# Altium schematic symbol library MCU_NXP_Kinetis.SchLib: 155 symbols (part 2 of 4)
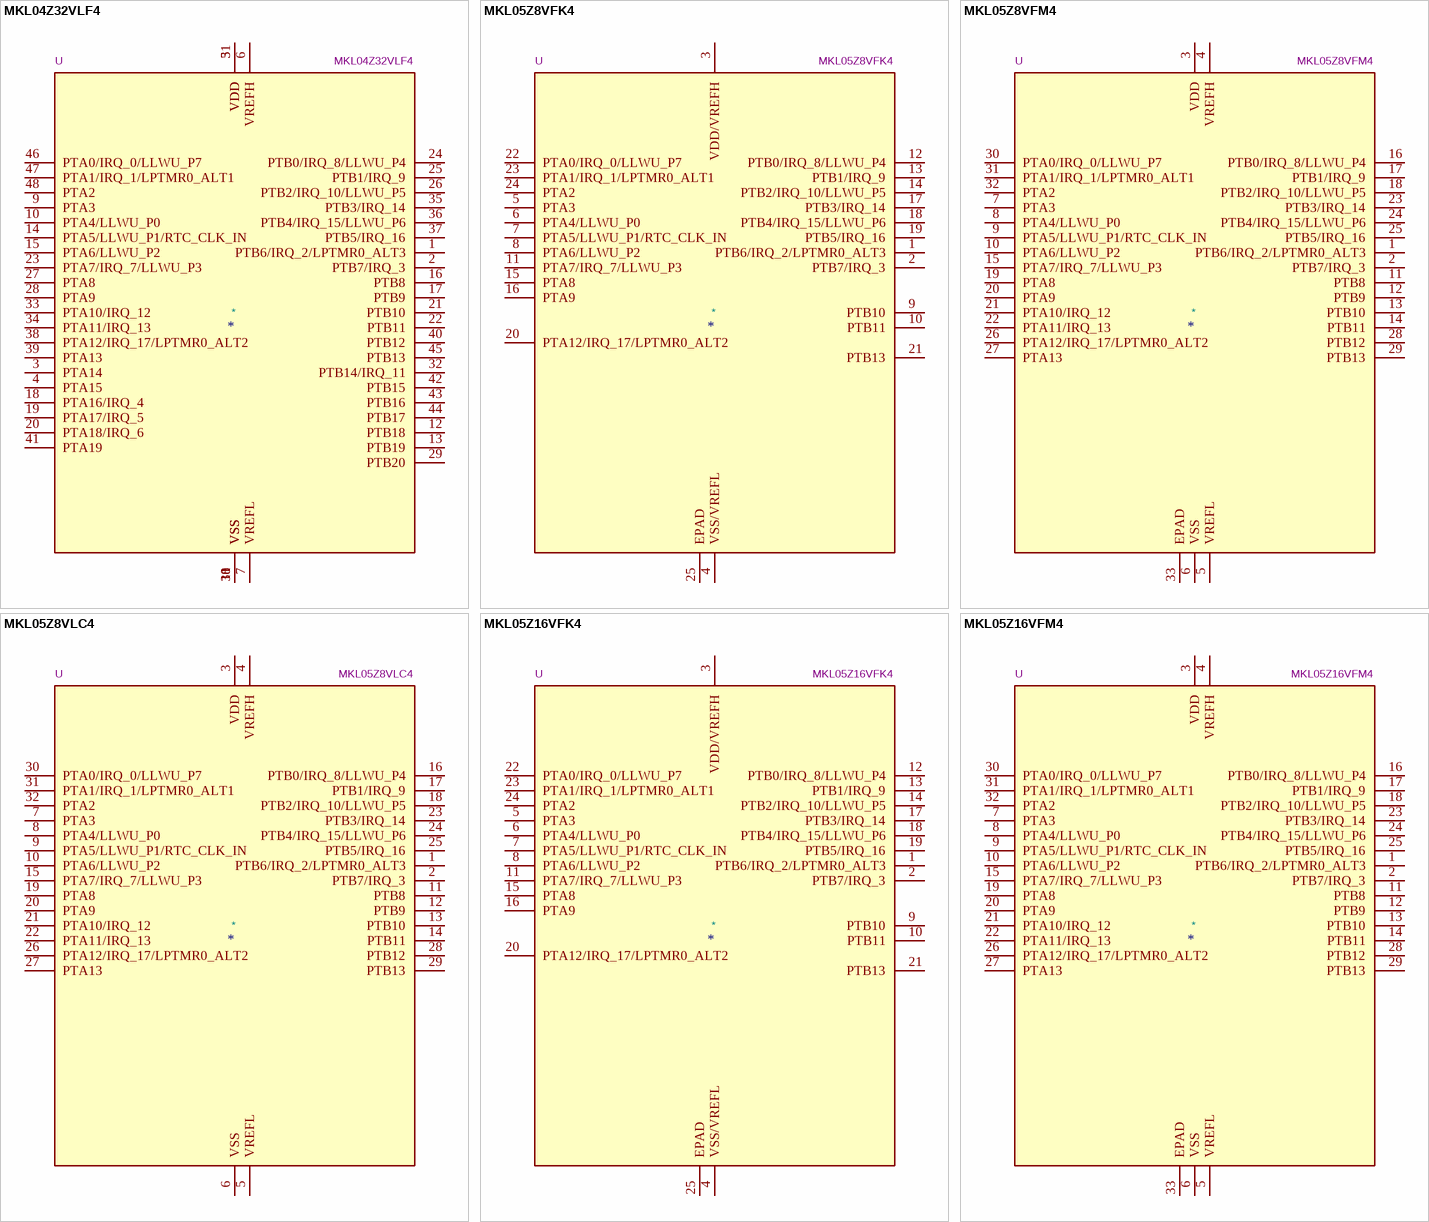
[diagram p31: symbols MKL04Z32VLF4 to MKL05Z16VFM4]

## MKL05Z16VFK4
designator *  value MKL05Z16VFK4  Reference: U
Kinetis KL05 series, 48-MHz/32-bit ARM Cortex-M0+, 16 kB flash, 2 kB SRAM, QFN-24; ki_keywords: Kinetis KL05 ARM Cortex M0+; ki_fp_filters: QFN*4x4mm*P0.5mm*; Footprint: Package_DFN_QFN:QFN-24-1EP_4x4mm_P0.5mm_EP2.6x2.6mm; Datasheet: http://www.nxp.com/docs/en/data-sheet/KL05P48M48SF1.pdf; Description_: Kinetis KL05 series, 48-MHz/32-bit ARM Cortex-M0+, 16 kB flash, 2 kB SRAM, QFN-24
pins: 1 PTB6/IRQ_2/LPTMR0_ALT3, 2 PTB7/IRQ_3, 3 VDD/VREFH, 4 VSS/VREFL, 5 PTA3, 6 PTA4/LLWU_P0, 7 PTA5/LLWU_P1/RTC_CLK_IN, 8 PTA6/LLWU_P2, 9 PTB10, 10 PTB11, 11 PTA7/IRQ_7/LLWU_P3, 12 PTB0/IRQ_8/LLWU_P4, 13 PTB1/IRQ_9, 14 PTB2/IRQ_10/LLWU_P5, 15 PTA8, 16 PTA9, 17 PTB3/IRQ_14, 18 PTB4/IRQ_15/LLWU_P6, 19 PTB5/IRQ_16, 20 PTA12/IRQ_17/LPTMR0_ALT2, 21 PTB13, 22 PTA0/IRQ_0/LLWU_P7, 23 PTA1/IRQ_1/LPTMR0_ALT1, 24 PTA2, 25 EPAD

## MKL05Z16VFM4
designator *  value MKL05Z16VFM4  Reference: U
Kinetis KL05 series, 48-MHz/32-bit ARM Cortex-M0+, 16 kB flash, 2 kB SRAM, QFN-32; ki_keywords: Kinetis KL05 ARM Cortex M0+; ki_fp_filters: QFN*5x5mm*P0.5mm*; Footprint: Package_DFN_QFN:QFN-32-1EP_5x5mm_P0.5mm_EP3.45x3.45mm; Datasheet: http://www.nxp.com/docs/en/data-sheet/KL05P48M48SF1.pdf; Description_: Kinetis KL05 series, 48-MHz/32-bit ARM Cortex-M0+, 16 kB flash, 2 kB SRAM, QFN-32
pins: 1 PTB6/IRQ_2/LPTMR0_ALT3, 2 PTB7/IRQ_3, 3 VDD, 4 VREFH, 5 VREFL, 6 VSS, 7 PTA3, 8 PTA4/LLWU_P0, 9 PTA5/LLWU_P1/RTC_CLK_IN, 10 PTA6/LLWU_P2, 11 PTB8, 12 PTB9, 13 PTB10, 14 PTB11, 15 PTA7/IRQ_7/LLWU_P3, 16 PTB0/IRQ_8/LLWU_P4, 17 PTB1/IRQ_9, 18 PTB2/IRQ_10/LLWU_P5, 19 PTA8, 20 PTA9, 21 PTA10/IRQ_12, 22 PTA11/IRQ_13, 23 PTB3/IRQ_14, 24 PTB4/IRQ_15/LLWU_P6, 25 PTB5/IRQ_16, 26 PTA12/IRQ_17/LPTMR0_ALT2, 27 PTA13, 28 PTB12, 29 PTB13, 30 PTA0/IRQ_0/LLWU_P7, 31 PTA1/IRQ_1/LPTMR0_ALT1, 32 PTA2, 33 EPAD

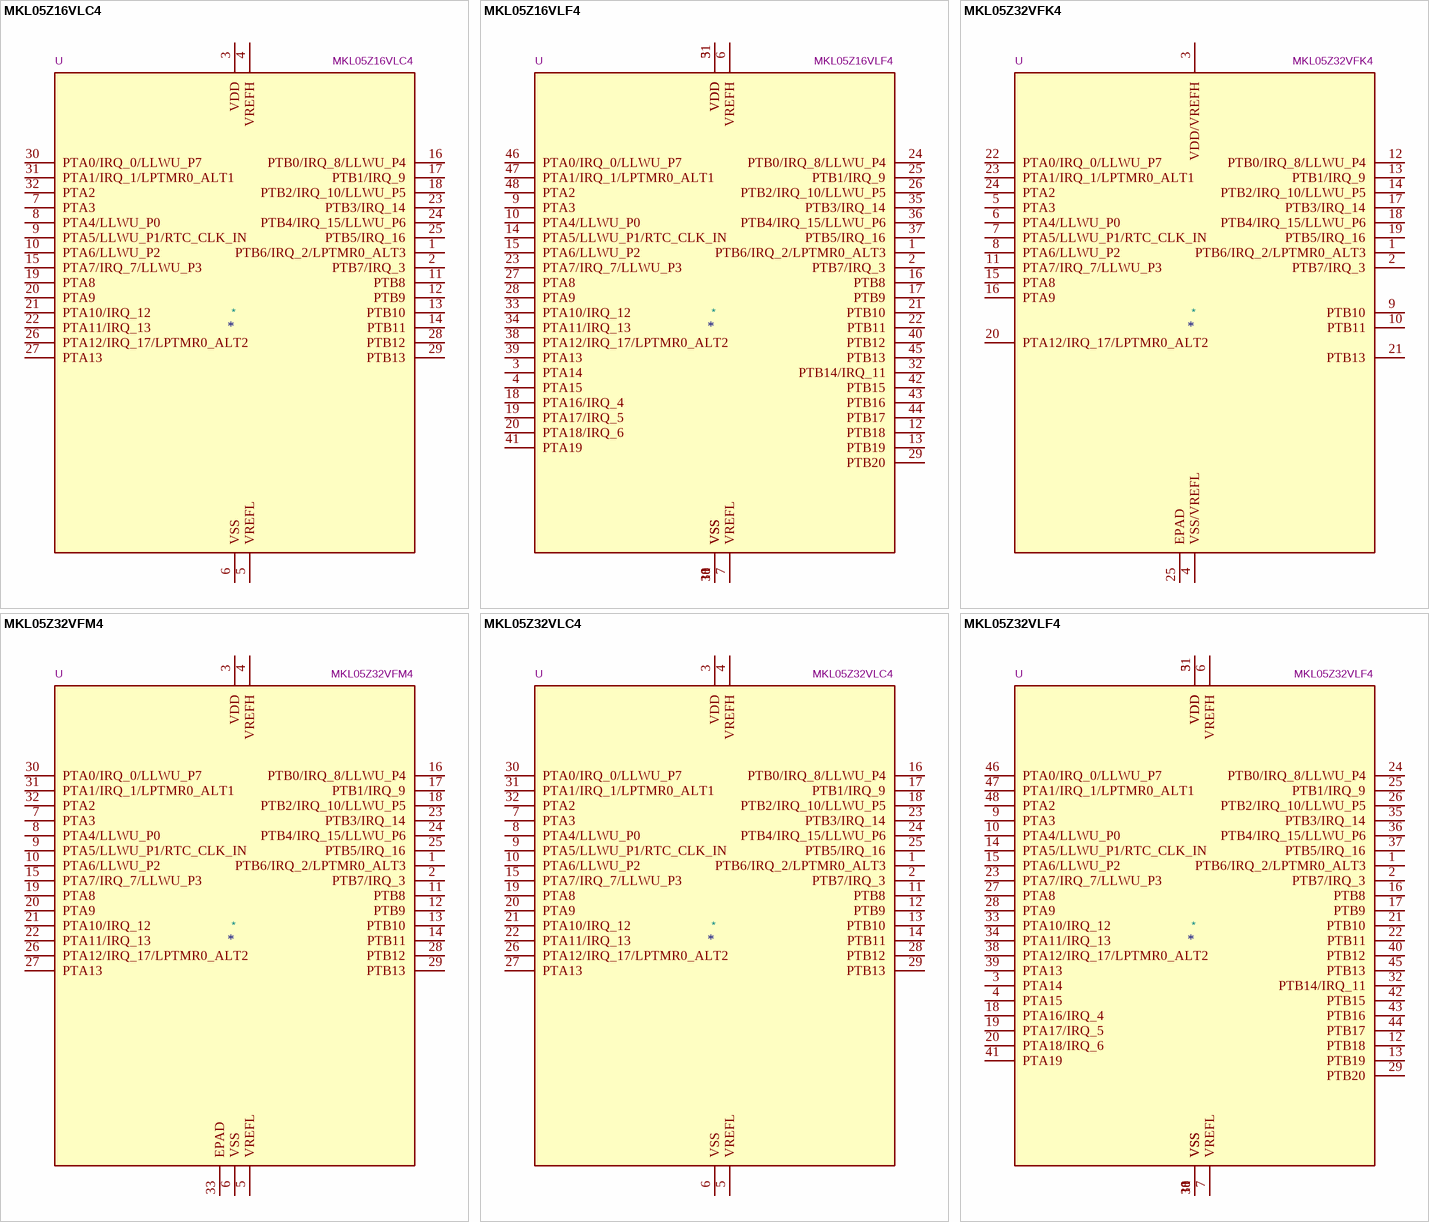
[diagram p8: symbols MKL05Z16VLC4 to MKL05Z32VLF4]

## MKL05Z16VLC4
designator *  value MKL05Z16VLC4  Reference: U
Kinetis KL05 series, 48-MHz/32-bit ARM Cortex-M0+, 16 kB flash, 2 kB SRAM, LQFP-32; ki_keywords: Kinetis KL05 ARM Cortex M0+; ki_fp_filters: LQFP*7x7mm*P0.8mm*; Footprint: Package_QFP:LQFP-32_7x7mm_P0.8mm; Datasheet: http://www.nxp.com/docs/en/data-sheet/KL05P48M48SF1.pdf; Description_: Kinetis KL05 series, 48-MHz/32-bit ARM Cortex-M0+, 16 kB flash, 2 kB SRAM, LQFP-32
pins: 1 PTB6/IRQ_2/LPTMR0_ALT3, 2 PTB7/IRQ_3, 3 VDD, 4 VREFH, 5 VREFL, 6 VSS, 7 PTA3, 8 PTA4/LLWU_P0, 9 PTA5/LLWU_P1/RTC_CLK_IN, 10 PTA6/LLWU_P2, 11 PTB8, 12 PTB9, 13 PTB10, 14 PTB11, 15 PTA7/IRQ_7/LLWU_P3, 16 PTB0/IRQ_8/LLWU_P4, 17 PTB1/IRQ_9, 18 PTB2/IRQ_10/LLWU_P5, 19 PTA8, 20 PTA9, 21 PTA10/IRQ_12, 22 PTA11/IRQ_13, 23 PTB3/IRQ_14, 24 PTB4/IRQ_15/LLWU_P6, 25 PTB5/IRQ_16, 26 PTA12/IRQ_17/LPTMR0_ALT2, 27 PTA13, 28 PTB12, 29 PTB13, 30 PTA0/IRQ_0/LLWU_P7, 31 PTA1/IRQ_1/LPTMR0_ALT1, 32 PTA2

## MKL05Z16VLF4
designator *  value MKL05Z16VLF4  Reference: U
Kinetis KL05 series, 48-MHz/32-bit ARM Cortex-M0+, 16 kB flash, 2 kB SRAM, LQFP-48; ki_keywords: Kinetis KL05 ARM Cortex M0+; ki_fp_filters: LQFP*7x7mm*P0.5mm*; Footprint: Package_QFP:LQFP-48_7x7mm_P0.5mm; Datasheet: http://www.nxp.com/docs/en/data-sheet/KL05P48M48SF1.pdf; Description_: Kinetis KL05 series, 48-MHz/32-bit ARM Cortex-M0+, 16 kB flash, 2 kB SRAM, LQFP-48
pins: 1 PTB6/IRQ_2/LPTMR0_ALT3, 2 PTB7/IRQ_3, 3 PTA14, 4 PTA15, 5 VDD, 6 VREFH, 7 VREFL, 8 VSS, 9 PTA3, 10 PTA4/LLWU_P0, 11 VSS, 12 PTB18, 13 PTB19, 14 PTA5/LLWU_P1/RTC_CLK_IN, 15 PTA6/LLWU_P2, 16 PTB8, 17 PTB9, 18 PTA16/IRQ_4, 19 PTA17/IRQ_5, 20 PTA18/IRQ_6, 21 PTB10, 22 PTB11, 23 PTA7/IRQ_7/LLWU_P3, 24 PTB0/IRQ_8/LLWU_P4, 25 PTB1/IRQ_9, 26 PTB2/IRQ_10/LLWU_P5, 27 PTA8, 28 PTA9, 29 PTB20, 30 VSS, 31 VDD, 32 PTB14/IRQ_11, 33 PTA10/IRQ_12, 34 PTA11/IRQ_13, 35 PTB3/IRQ_14, 36 PTB4/IRQ_15/LLWU_P6, 37 PTB5/IRQ_16, 38 PTA12/IRQ_17/LPTMR0_ALT2, 39 PTA13, 40 PTB12, 41 PTA19, 42 PTB15, 43 PTB16, 44 PTB17, 45 PTB13, 46 PTA0/IRQ_0/LLWU_P7, 47 PTA1/IRQ_1/LPTMR0_ALT1, 48 PTA2

## MKL05Z32VFK4
designator *  value MKL05Z32VFK4  Reference: U
Kinetis KL05 series, 48-MHz/32-bit ARM Cortex-M0+, 32 kB flash, 4 kB SRAM, QFN-24; ki_keywords: Kinetis KL05 ARM Cortex M0+; ki_fp_filters: QFN*4x4mm*P0.5mm*; Footprint: Package_DFN_QFN:QFN-24-1EP_4x4mm_P0.5mm_EP2.6x2.6mm; Datasheet: http://www.nxp.com/docs/en/data-sheet/KL05P48M48SF1.pdf; Description_: Kinetis KL05 series, 48-MHz/32-bit ARM Cortex-M0+, 32 kB flash, 4 kB SRAM, QFN-24
pins: 1 PTB6/IRQ_2/LPTMR0_ALT3, 2 PTB7/IRQ_3, 3 VDD/VREFH, 4 VSS/VREFL, 5 PTA3, 6 PTA4/LLWU_P0, 7 PTA5/LLWU_P1/RTC_CLK_IN, 8 PTA6/LLWU_P2, 9 PTB10, 10 PTB11, 11 PTA7/IRQ_7/LLWU_P3, 12 PTB0/IRQ_8/LLWU_P4, 13 PTB1/IRQ_9, 14 PTB2/IRQ_10/LLWU_P5, 15 PTA8, 16 PTA9, 17 PTB3/IRQ_14, 18 PTB4/IRQ_15/LLWU_P6, 19 PTB5/IRQ_16, 20 PTA12/IRQ_17/LPTMR0_ALT2, 21 PTB13, 22 PTA0/IRQ_0/LLWU_P7, 23 PTA1/IRQ_1/LPTMR0_ALT1, 24 PTA2, 25 EPAD

## MKL05Z32VFM4
designator *  value MKL05Z32VFM4  Reference: U
Kinetis KL05 series, 48-MHz/32-bit ARM Cortex-M0+, 32 kB flash, 4 kB SRAM, QFN-32; ki_keywords: Kinetis KL05 ARM Cortex M0+; ki_fp_filters: QFN*5x5mm*P0.5mm*; Footprint: Package_DFN_QFN:QFN-32-1EP_5x5mm_P0.5mm_EP3.45x3.45mm; Datasheet: http://www.nxp.com/docs/en/data-sheet/KL05P48M48SF1.pdf; Description_: Kinetis KL05 series, 48-MHz/32-bit ARM Cortex-M0+, 32 kB flash, 4 kB SRAM, QFN-32
pins: 1 PTB6/IRQ_2/LPTMR0_ALT3, 2 PTB7/IRQ_3, 3 VDD, 4 VREFH, 5 VREFL, 6 VSS, 7 PTA3, 8 PTA4/LLWU_P0, 9 PTA5/LLWU_P1/RTC_CLK_IN, 10 PTA6/LLWU_P2, 11 PTB8, 12 PTB9, 13 PTB10, 14 PTB11, 15 PTA7/IRQ_7/LLWU_P3, 16 PTB0/IRQ_8/LLWU_P4, 17 PTB1/IRQ_9, 18 PTB2/IRQ_10/LLWU_P5, 19 PTA8, 20 PTA9, 21 PTA10/IRQ_12, 22 PTA11/IRQ_13, 23 PTB3/IRQ_14, 24 PTB4/IRQ_15/LLWU_P6, 25 PTB5/IRQ_16, 26 PTA12/IRQ_17/LPTMR0_ALT2, 27 PTA13, 28 PTB12, 29 PTB13, 30 PTA0/IRQ_0/LLWU_P7, 31 PTA1/IRQ_1/LPTMR0_ALT1, 32 PTA2, 33 EPAD

## MKL05Z32VLC4
designator *  value MKL05Z32VLC4  Reference: U
Kinetis KL05 series, 48-MHz/32-bit ARM Cortex-M0+, 32 kB flash, 4 kB SRAM, LQFP-32; ki_keywords: Kinetis KL05 ARM Cortex M0+; ki_fp_filters: LQFP*7x7mm*P0.8mm*; Footprint: Package_QFP:LQFP-32_7x7mm_P0.8mm; Datasheet: http://www.nxp.com/docs/en/data-sheet/KL05P48M48SF1.pdf; Description_: Kinetis KL05 series, 48-MHz/32-bit ARM Cortex-M0+, 32 kB flash, 4 kB SRAM, LQFP-32
pins: 1 PTB6/IRQ_2/LPTMR0_ALT3, 2 PTB7/IRQ_3, 3 VDD, 4 VREFH, 5 VREFL, 6 VSS, 7 PTA3, 8 PTA4/LLWU_P0, 9 PTA5/LLWU_P1/RTC_CLK_IN, 10 PTA6/LLWU_P2, 11 PTB8, 12 PTB9, 13 PTB10, 14 PTB11, 15 PTA7/IRQ_7/LLWU_P3, 16 PTB0/IRQ_8/LLWU_P4, 17 PTB1/IRQ_9, 18 PTB2/IRQ_10/LLWU_P5, 19 PTA8, 20 PTA9, 21 PTA10/IRQ_12, 22 PTA11/IRQ_13, 23 PTB3/IRQ_14, 24 PTB4/IRQ_15/LLWU_P6, 25 PTB5/IRQ_16, 26 PTA12/IRQ_17/LPTMR0_ALT2, 27 PTA13, 28 PTB12, 29 PTB13, 30 PTA0/IRQ_0/LLWU_P7, 31 PTA1/IRQ_1/LPTMR0_ALT1, 32 PTA2

## MKL05Z32VLF4
designator *  value MKL05Z32VLF4  Reference: U
Kinetis KL05 series, 48-MHz/32-bit ARM Cortex-M0+, 32 kB flash, 4 kB SRAM, LQFP-48; ki_keywords: Kinetis KL05 ARM Cortex M0+; ki_fp_filters: LQFP*7x7mm*P0.5mm*; Footprint: Package_QFP:LQFP-48_7x7mm_P0.5mm; Datasheet: http://www.nxp.com/docs/en/data-sheet/KL05P48M48SF1.pdf; Description_: Kinetis KL05 series, 48-MHz/32-bit ARM Cortex-M0+, 32 kB flash, 4 kB SRAM, LQFP-48
pins: 1 PTB6/IRQ_2/LPTMR0_ALT3, 2 PTB7/IRQ_3, 3 PTA14, 4 PTA15, 5 VDD, 6 VREFH, 7 VREFL, 8 VSS, 9 PTA3, 10 PTA4/LLWU_P0, 11 VSS, 12 PTB18, 13 PTB19, 14 PTA5/LLWU_P1/RTC_CLK_IN, 15 PTA6/LLWU_P2, 16 PTB8, 17 PTB9, 18 PTA16/IRQ_4, 19 PTA17/IRQ_5, 20 PTA18/IRQ_6, 21 PTB10, 22 PTB11, 23 PTA7/IRQ_7/LLWU_P3, 24 PTB0/IRQ_8/LLWU_P4, 25 PTB1/IRQ_9, 26 PTB2/IRQ_10/LLWU_P5, 27 PTA8, 28 PTA9, 29 PTB20, 30 VSS, 31 VDD, 32 PTB14/IRQ_11, 33 PTA10/IRQ_12, 34 PTA11/IRQ_13, 35 PTB3/IRQ_14, 36 PTB4/IRQ_15/LLWU_P6, 37 PTB5/IRQ_16, 38 PTA12/IRQ_17/LPTMR0_ALT2, 39 PTA13, 40 PTB12, 41 PTA19, 42 PTB15, 43 PTB16, 44 PTB17, 45 PTB13, 46 PTA0/IRQ_0/LLWU_P7, 47 PTA1/IRQ_1/LPTMR0_ALT1, 48 PTA2

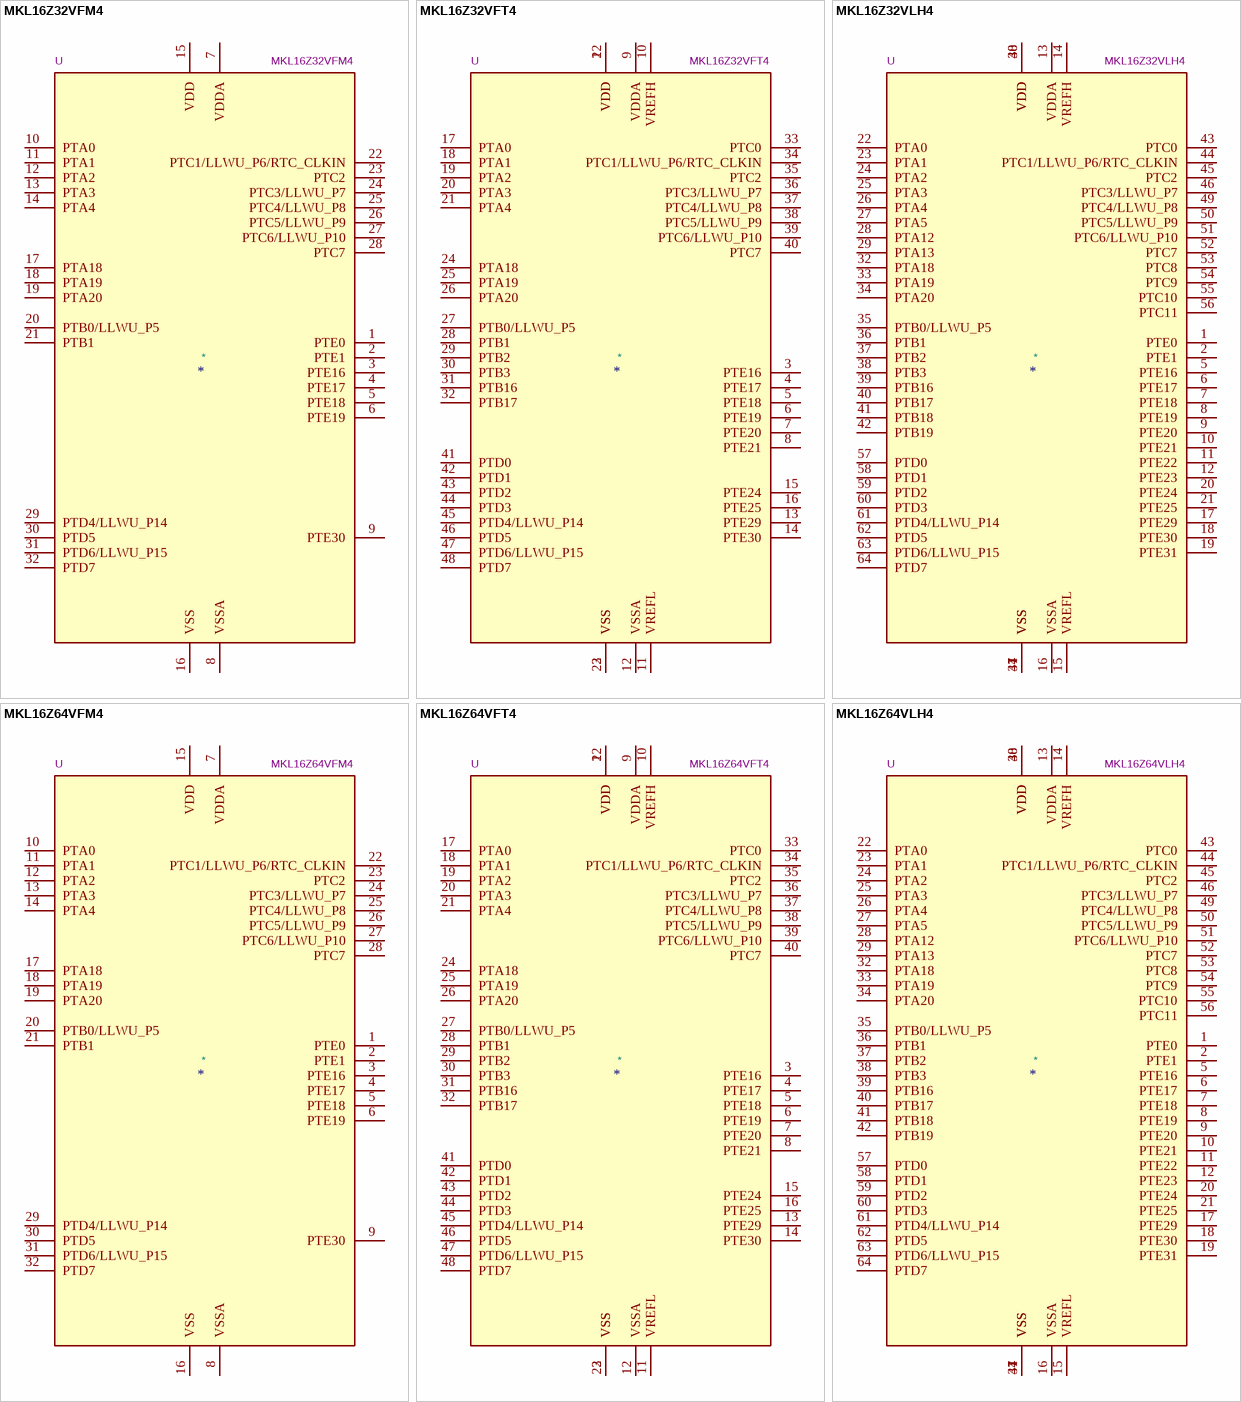
[diagram p9: symbols MKL16Z32VFM4 to MKL16Z64VLH4]

## MKL16Z32VFM4
designator *  value MKL16Z32VFM4  Reference: U
Kinetis KL16 series, 48-MHz/32-bit ARM Cortex-M0+, 32 kB flash, 4 kB SRAM, I²S, TSI, QFN-32; ki_keywords: Kinetis KL16 ARM Cortex M0+; ki_fp_filters: QFN*5x5mm*P0.5mm*; Footprint: Package_DFN_QFN:QFN-32-1EP_5x5mm_P0.5mm_EP3.45x3.45mm; Datasheet: http://www.nxp.com/docs/en/data-sheet/KL16P64M48SF5.pdf; Description_: Kinetis KL16 series, 48-MHz/32-bit ARM Cortex-M0+, 32 kB flash, 4 kB SRAM, I²S, TSI, QFN-32
pins: 1 PTE0, 2 PTE1, 3 PTE16, 4 PTE17, 5 PTE18, 6 PTE19, 7 VDDA, 8 VSSA, 9 PTE30, 10 PTA0, 11 PTA1, 12 PTA2, 13 PTA3, 14 PTA4, 15 VDD, 16 VSS, 17 PTA18, 18 PTA19, 19 PTA20, 20 PTB0/LLWU_P5, 21 PTB1, 22 PTC1/LLWU_P6/RTC_CLKIN, 23 PTC2, 24 PTC3/LLWU_P7, 25 PTC4/LLWU_P8, 26 PTC5/LLWU_P9, 27 PTC6/LLWU_P10, 28 PTC7, 29 PTD4/LLWU_P14, 30 PTD5, 31 PTD6/LLWU_P15, 32 PTD7

## MKL16Z32VFT4
designator *  value MKL16Z32VFT4  Reference: U
Kinetis KL16 series, 48-MHz/32-bit ARM Cortex-M0+, 32 kB flash, 4 kB SRAM, I²S, TSI, QFN-48; ki_keywords: Kinetis KL16 ARM Cortex M0+; ki_fp_filters: QFN*7x7mm*P0.5mm*; Footprint: Package_DFN_QFN:QFN-48-1EP_7x7mm_P0.5mm_EP5.15x5.15mm; Datasheet: http://www.nxp.com/docs/en/data-sheet/KL16P64M48SF5.pdf; Description_: Kinetis KL16 series, 48-MHz/32-bit ARM Cortex-M0+, 32 kB flash, 4 kB SRAM, I²S, TSI, QFN-48
pins: 1 VDD, 2 VSS, 3 PTE16, 4 PTE17, 5 PTE18, 6 PTE19, 7 PTE20, 8 PTE21, 9 VDDA, 10 VREFH, 11 VREFL, 12 VSSA, 13 PTE29, 14 PTE30, 15 PTE24, 16 PTE25, 17 PTA0, 18 PTA1, 19 PTA2, 20 PTA3, 21 PTA4, 22 VDD, 23 VSS, 24 PTA18, 25 PTA19, 26 PTA20, 27 PTB0/LLWU_P5, 28 PTB1, 29 PTB2, 30 PTB3, 31 PTB16, 32 PTB17, 33 PTC0, 34 PTC1/LLWU_P6/RTC_CLKIN, 35 PTC2, 36 PTC3/LLWU_P7, 37 PTC4/LLWU_P8, 38 PTC5/LLWU_P9, 39 PTC6/LLWU_P10, 40 PTC7, 41 PTD0, 42 PTD1, 43 PTD2, 44 PTD3, 45 PTD4/LLWU_P14, 46 PTD5, 47 PTD6/LLWU_P15, 48 PTD7

## MKL16Z32VLH4
designator *  value MKL16Z32VLH4  Reference: U
Kinetis KL16 series, 48-MHz/32-bit ARM Cortex-M0+, 32 kB flash, 4 kB SRAM, I²S, TSI, LQFP-64; ki_keywords: Kinetis KL16 ARM Cortex M0+; ki_fp_filters: LQFP*10x10mm*P0.5mm*; Footprint: Package_QFP:LQFP-64_10x10mm_P0.5mm; Datasheet: http://www.nxp.com/docs/en/data-sheet/KL16P64M48SF5.pdf; Description_: Kinetis KL16 series, 48-MHz/32-bit ARM Cortex-M0+, 32 kB flash, 4 kB SRAM, I²S, TSI, LQFP-64
pins: 1 PTE0, 2 PTE1, 3 VDD, 4 VSS, 5 PTE16, 6 PTE17, 7 PTE18, 8 PTE19, 9 PTE20, 10 PTE21, 11 PTE22, 12 PTE23, 13 VDDA, 14 VREFH, 15 VREFL, 16 VSSA, 17 PTE29, 18 PTE30, 19 PTE31, 20 PTE24, 21 PTE25, 22 PTA0, 23 PTA1, 24 PTA2, 25 PTA3, 26 PTA4, 27 PTA5, 28 PTA12, 29 PTA13, 30 VDD, 31 VSS, 32 PTA18, 33 PTA19, 34 PTA20, 35 PTB0/LLWU_P5, 36 PTB1, 37 PTB2, 38 PTB3, 39 PTB16, 40 PTB17, 41 PTB18, 42 PTB19, 43 PTC0, 44 PTC1/LLWU_P6/RTC_CLKIN, 45 PTC2, 46 PTC3/LLWU_P7, 47 VSS, 48 VDD, 49 PTC4/LLWU_P8, 50 PTC5/LLWU_P9, 51 PTC6/LLWU_P10, 52 PTC7, 53 PTC8, 54 PTC9, 55 PTC10, 56 PTC11, 57 PTD0, 58 PTD1, 59 PTD2, 60 PTD3, 61 PTD4/LLWU_P14, 62 PTD5, 63 PTD6/LLWU_P15, 64 PTD7

## MKL16Z64VFM4
designator *  value MKL16Z64VFM4  Reference: U
Kinetis KL16 series, 48-MHz/32-bit ARM Cortex-M0+, 64 kB flash, 8 kB SRAM, I²S, TSI, QFN-32; ki_keywords: Kinetis KL16 ARM Cortex M0+; ki_fp_filters: QFN*5x5mm*P0.5mm*; Footprint: Package_DFN_QFN:QFN-32-1EP_5x5mm_P0.5mm_EP3.45x3.45mm; Datasheet: http://www.nxp.com/docs/en/data-sheet/KL16P64M48SF5.pdf; Description_: Kinetis KL16 series, 48-MHz/32-bit ARM Cortex-M0+, 64 kB flash, 8 kB SRAM, I²S, TSI, QFN-32
pins: 1 PTE0, 2 PTE1, 3 PTE16, 4 PTE17, 5 PTE18, 6 PTE19, 7 VDDA, 8 VSSA, 9 PTE30, 10 PTA0, 11 PTA1, 12 PTA2, 13 PTA3, 14 PTA4, 15 VDD, 16 VSS, 17 PTA18, 18 PTA19, 19 PTA20, 20 PTB0/LLWU_P5, 21 PTB1, 22 PTC1/LLWU_P6/RTC_CLKIN, 23 PTC2, 24 PTC3/LLWU_P7, 25 PTC4/LLWU_P8, 26 PTC5/LLWU_P9, 27 PTC6/LLWU_P10, 28 PTC7, 29 PTD4/LLWU_P14, 30 PTD5, 31 PTD6/LLWU_P15, 32 PTD7

## MKL16Z64VFT4
designator *  value MKL16Z64VFT4  Reference: U
Kinetis KL16 series, 48-MHz/32-bit ARM Cortex-M0+, 64 kB flash, 8 kB SRAM, I²S, TSI, QFN-48; ki_keywords: Kinetis KL16 ARM Cortex M0+; ki_fp_filters: QFN*7x7mm*P0.5mm*; Footprint: Package_DFN_QFN:QFN-48-1EP_7x7mm_P0.5mm_EP5.15x5.15mm; Datasheet: http://www.nxp.com/docs/en/data-sheet/KL16P64M48SF5.pdf; Description_: Kinetis KL16 series, 48-MHz/32-bit ARM Cortex-M0+, 64 kB flash, 8 kB SRAM, I²S, TSI, QFN-48
pins: 1 VDD, 2 VSS, 3 PTE16, 4 PTE17, 5 PTE18, 6 PTE19, 7 PTE20, 8 PTE21, 9 VDDA, 10 VREFH, 11 VREFL, 12 VSSA, 13 PTE29, 14 PTE30, 15 PTE24, 16 PTE25, 17 PTA0, 18 PTA1, 19 PTA2, 20 PTA3, 21 PTA4, 22 VDD, 23 VSS, 24 PTA18, 25 PTA19, 26 PTA20, 27 PTB0/LLWU_P5, 28 PTB1, 29 PTB2, 30 PTB3, 31 PTB16, 32 PTB17, 33 PTC0, 34 PTC1/LLWU_P6/RTC_CLKIN, 35 PTC2, 36 PTC3/LLWU_P7, 37 PTC4/LLWU_P8, 38 PTC5/LLWU_P9, 39 PTC6/LLWU_P10, 40 PTC7, 41 PTD0, 42 PTD1, 43 PTD2, 44 PTD3, 45 PTD4/LLWU_P14, 46 PTD5, 47 PTD6/LLWU_P15, 48 PTD7

## MKL16Z64VLH4
designator *  value MKL16Z64VLH4  Reference: U
Kinetis KL16 series, 48-MHz/32-bit ARM Cortex-M0+, 64 kB flash, 8 kB SRAM, I²S, TSI, LQFP-64; ki_keywords: Kinetis KL16 ARM Cortex M0+; ki_fp_filters: LQFP*10x10mm*P0.5mm*; Footprint: Package_QFP:LQFP-64_10x10mm_P0.5mm; Datasheet: http://www.nxp.com/docs/en/data-sheet/KL16P64M48SF5.pdf; Description_: Kinetis KL16 series, 48-MHz/32-bit ARM Cortex-M0+, 64 kB flash, 8 kB SRAM, I²S, TSI, LQFP-64
pins: 1 PTE0, 2 PTE1, 3 VDD, 4 VSS, 5 PTE16, 6 PTE17, 7 PTE18, 8 PTE19, 9 PTE20, 10 PTE21, 11 PTE22, 12 PTE23, 13 VDDA, 14 VREFH, 15 VREFL, 16 VSSA, 17 PTE29, 18 PTE30, 19 PTE31, 20 PTE24, 21 PTE25, 22 PTA0, 23 PTA1, 24 PTA2, 25 PTA3, 26 PTA4, 27 PTA5, 28 PTA12, 29 PTA13, 30 VDD, 31 VSS, 32 PTA18, 33 PTA19, 34 PTA20, 35 PTB0/LLWU_P5, 36 PTB1, 37 PTB2, 38 PTB3, 39 PTB16, 40 PTB17, 41 PTB18, 42 PTB19, 43 PTC0, 44 PTC1/LLWU_P6/RTC_CLKIN, 45 PTC2, 46 PTC3/LLWU_P7, 47 VSS, 48 VDD, 49 PTC4/LLWU_P8, 50 PTC5/LLWU_P9, 51 PTC6/LLWU_P10, 52 PTC7, 53 PTC8, 54 PTC9, 55 PTC10, 56 PTC11, 57 PTD0, 58 PTD1, 59 PTD2, 60 PTD3, 61 PTD4/LLWU_P14, 62 PTD5, 63 PTD6/LLWU_P15, 64 PTD7

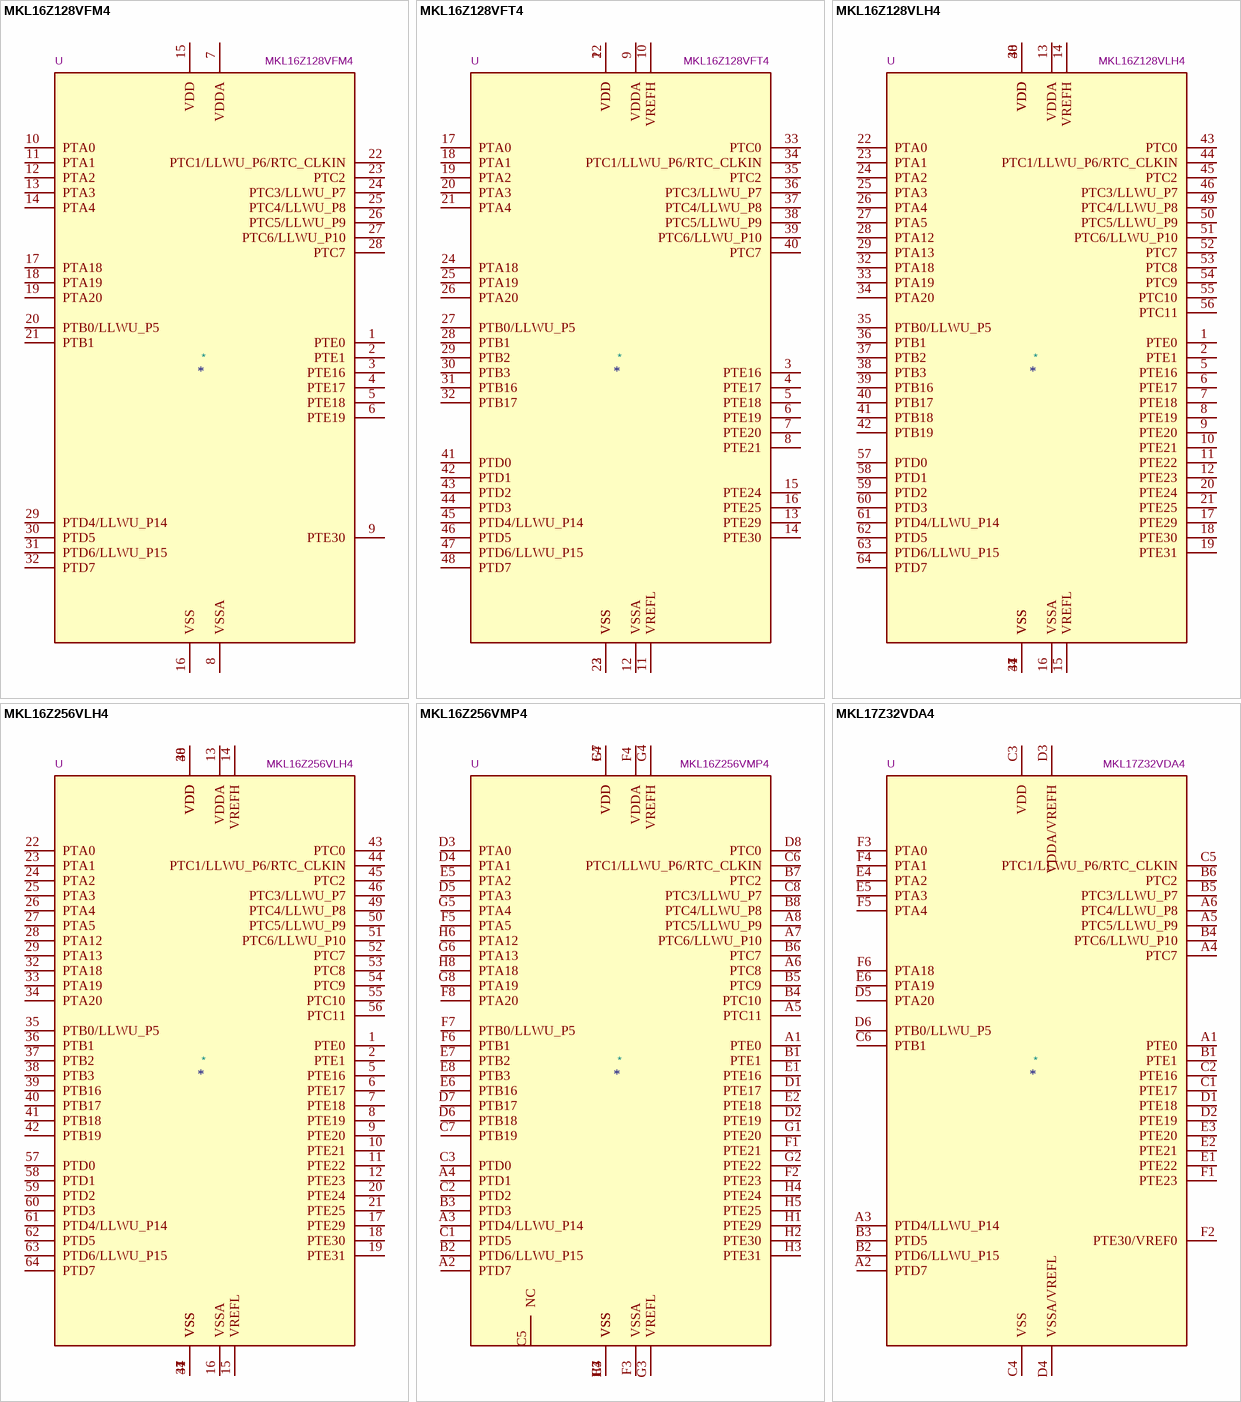
[diagram p10: symbols MKL16Z128VFM4 to MKL17Z32VDA4]

## MKL16Z128VFM4
designator *  value MKL16Z128VFM4  Reference: U
Kinetis KL16 series, 48-MHz/32-bit ARM Cortex-M0+, 128 kB flash, 16 kB SRAM, I²S, TSI, QFN-32; ki_keywords: Kinetis KL16 ARM Cortex M0+; ki_fp_filters: QFN*5x5mm*P0.5mm*; Footprint: Package_DFN_QFN:QFN-32-1EP_5x5mm_P0.5mm_EP3.45x3.45mm; Datasheet: http://www.nxp.com/docs/en/data-sheet/KL16P64M48SF5.pdf; Description_: Kinetis KL16 series, 48-MHz/32-bit ARM Cortex-M0+, 128 kB flash, 16 kB SRAM, I²S, TSI, QFN-32
pins: 1 PTE0, 2 PTE1, 3 PTE16, 4 PTE17, 5 PTE18, 6 PTE19, 7 VDDA, 8 VSSA, 9 PTE30, 10 PTA0, 11 PTA1, 12 PTA2, 13 PTA3, 14 PTA4, 15 VDD, 16 VSS, 17 PTA18, 18 PTA19, 19 PTA20, 20 PTB0/LLWU_P5, 21 PTB1, 22 PTC1/LLWU_P6/RTC_CLKIN, 23 PTC2, 24 PTC3/LLWU_P7, 25 PTC4/LLWU_P8, 26 PTC5/LLWU_P9, 27 PTC6/LLWU_P10, 28 PTC7, 29 PTD4/LLWU_P14, 30 PTD5, 31 PTD6/LLWU_P15, 32 PTD7

## MKL16Z128VFT4
designator *  value MKL16Z128VFT4  Reference: U
Kinetis KL16 series, 48-MHz/32-bit ARM Cortex-M0+, 128 kB flash, 16 kB SRAM, I²S, TSI, QFN-48; ki_keywords: Kinetis KL16 ARM Cortex M0+; ki_fp_filters: QFN*7x7mm*P0.5mm*; Footprint: Package_DFN_QFN:QFN-48-1EP_7x7mm_P0.5mm_EP5.15x5.15mm; Datasheet: http://www.nxp.com/docs/en/data-sheet/KL16P64M48SF5.pdf; Description_: Kinetis KL16 series, 48-MHz/32-bit ARM Cortex-M0+, 128 kB flash, 16 kB SRAM, I²S, TSI, QFN-48
pins: 1 VDD, 2 VSS, 3 PTE16, 4 PTE17, 5 PTE18, 6 PTE19, 7 PTE20, 8 PTE21, 9 VDDA, 10 VREFH, 11 VREFL, 12 VSSA, 13 PTE29, 14 PTE30, 15 PTE24, 16 PTE25, 17 PTA0, 18 PTA1, 19 PTA2, 20 PTA3, 21 PTA4, 22 VDD, 23 VSS, 24 PTA18, 25 PTA19, 26 PTA20, 27 PTB0/LLWU_P5, 28 PTB1, 29 PTB2, 30 PTB3, 31 PTB16, 32 PTB17, 33 PTC0, 34 PTC1/LLWU_P6/RTC_CLKIN, 35 PTC2, 36 PTC3/LLWU_P7, 37 PTC4/LLWU_P8, 38 PTC5/LLWU_P9, 39 PTC6/LLWU_P10, 40 PTC7, 41 PTD0, 42 PTD1, 43 PTD2, 44 PTD3, 45 PTD4/LLWU_P14, 46 PTD5, 47 PTD6/LLWU_P15, 48 PTD7

## MKL16Z128VLH4
designator *  value MKL16Z128VLH4  Reference: U
Kinetis KL16 series, 48-MHz/32-bit ARM Cortex-M0+, 128 kB flash, 16 kB SRAM, I²S, TSI, LQFP-64; ki_keywords: Kinetis KL16 ARM Cortex M0+; ki_fp_filters: LQFP*10x10mm*P0.5mm*; Footprint: Package_QFP:LQFP-64_10x10mm_P0.5mm; Datasheet: http://www.nxp.com/docs/en/data-sheet/KL16P64M48SF5.pdf; Description_: Kinetis KL16 series, 48-MHz/32-bit ARM Cortex-M0+, 128 kB flash, 16 kB SRAM, I²S, TSI, LQFP-64
pins: 1 PTE0, 2 PTE1, 3 VDD, 4 VSS, 5 PTE16, 6 PTE17, 7 PTE18, 8 PTE19, 9 PTE20, 10 PTE21, 11 PTE22, 12 PTE23, 13 VDDA, 14 VREFH, 15 VREFL, 16 VSSA, 17 PTE29, 18 PTE30, 19 PTE31, 20 PTE24, 21 PTE25, 22 PTA0, 23 PTA1, 24 PTA2, 25 PTA3, 26 PTA4, 27 PTA5, 28 PTA12, 29 PTA13, 30 VDD, 31 VSS, 32 PTA18, 33 PTA19, 34 PTA20, 35 PTB0/LLWU_P5, 36 PTB1, 37 PTB2, 38 PTB3, 39 PTB16, 40 PTB17, 41 PTB18, 42 PTB19, 43 PTC0, 44 PTC1/LLWU_P6/RTC_CLKIN, 45 PTC2, 46 PTC3/LLWU_P7, 47 VSS, 48 VDD, 49 PTC4/LLWU_P8, 50 PTC5/LLWU_P9, 51 PTC6/LLWU_P10, 52 PTC7, 53 PTC8, 54 PTC9, 55 PTC10, 56 PTC11, 57 PTD0, 58 PTD1, 59 PTD2, 60 PTD3, 61 PTD4/LLWU_P14, 62 PTD5, 63 PTD6/LLWU_P15, 64 PTD7

## MKL16Z256VLH4
designator *  value MKL16Z256VLH4  Reference: U
Kinetis KL16 series, 48-MHz/32-bit ARM Cortex-M0+, 256 kB flash, 32 kB SRAM, I²S, TSI, LQFP-64; ki_keywords: Kinetis KL16 ARM Cortex M0+; ki_fp_filters: LQFP*10x10mm*P0.5mm*; Footprint: Package_QFP:LQFP-64_10x10mm_P0.5mm; Datasheet: http://www.nxp.com/docs/en/data-sheet/KL16P64M48SF4.pdf; Description_: Kinetis KL16 series, 48-MHz/32-bit ARM Cortex-M0+, 256 kB flash, 32 kB SRAM, I²S, TSI, LQFP-64
pins: 1 PTE0, 2 PTE1, 3 VDD, 4 VSS, 5 PTE16, 6 PTE17, 7 PTE18, 8 PTE19, 9 PTE20, 10 PTE21, 11 PTE22, 12 PTE23, 13 VDDA, 14 VREFH, 15 VREFL, 16 VSSA, 17 PTE29, 18 PTE30, 19 PTE31, 20 PTE24, 21 PTE25, 22 PTA0, 23 PTA1, 24 PTA2, 25 PTA3, 26 PTA4, 27 PTA5, 28 PTA12, 29 PTA13, 30 VDD, 31 VSS, 32 PTA18, 33 PTA19, 34 PTA20, 35 PTB0/LLWU_P5, 36 PTB1, 37 PTB2, 38 PTB3, 39 PTB16, 40 PTB17, 41 PTB18, 42 PTB19, 43 PTC0, 44 PTC1/LLWU_P6/RTC_CLKIN, 45 PTC2, 46 PTC3/LLWU_P7, 47 VSS, 48 VDD, 49 PTC4/LLWU_P8, 50 PTC5/LLWU_P9, 51 PTC6/LLWU_P10, 52 PTC7, 53 PTC8, 54 PTC9, 55 PTC10, 56 PTC11, 57 PTD0, 58 PTD1, 59 PTD2, 60 PTD3, 61 PTD4/LLWU_P14, 62 PTD5, 63 PTD6/LLWU_P15, 64 PTD7

## MKL16Z256VMP4
designator *  value MKL16Z256VMP4  Reference: U
Kinetis KL16 series, 48-MHz/32-bit ARM Cortex-M0+, 256 kB flash, 32 kB SRAM, I²S, TSI, MAPBGA-64; ki_keywords: Kinetis KL16 ARM Cortex M0+; ki_fp_filters: XFBGA*5.0x5.0mm*P0.5mm*; Footprint: Package_BGA:XFBGA-64_5.0x5.0mm_Layout8x8_P0.5mm; Datasheet: http://www.nxp.com/docs/en/data-sheet/KL16P64M48SF4.pdf; Description_: Kinetis KL16 series, 48-MHz/32-bit ARM Cortex-M0+, 256 kB flash, 32 kB SRAM, I²S, TSI, MAPBGA-64
pins: A1 PTE0, A2 PTD7, A3 PTD4/LLWU_P14, A4 PTD1, A5 PTC11, A6 PTC8, A7 PTC6/LLWU_P10, A8 PTC5/LLWU_P9, B1 PTE1, B2 PTD6/LLWU_P15, B3 PTD3, B4 PTC10, B5 PTC9, B6 PTC7, B7 PTC2, B8 PTC4/LLWU_P8, C1 PTD5, C2 PTD2, C3 PTD0, C4 VSS, C5 NC, C6 PTC1/LLWU_P6/RTC_CLKIN, C7 PTB19, C8 PTC3/LLWU_P7, D1 PTE17, D2 PTE19, D3 PTA0, D4 PTA1, D5 PTA3, D6 PTB18, D7 PTB17, D8 PTC0, E1 PTE16, E2 PTE18, E3 VSS, E4 VDD, E5 PTA2, E6 PTB16, E7 PTB2, E8 PTB3, F1 PTE21, F2 PTE23, F3 VSSA, F4 VDDA, F5 PTA5, F6 PTB1, F7 PTB0/LLWU_P5, F8 PTA20, G1 PTE20, G2 PTE22, G3 VREFL, G4 VREFH, G5 PTA4, G6 PTA13, G7 VDD, G8 PTA19, H1 PTE29, H2 PTE30, H3 PTE31, H4 PTE24, H5 PTE25, H6 PTA12, H7 VSS, H8 PTA18

## MKL17Z32VDA4
designator *  value MKL17Z32VDA4  Reference: U
Kinetis KL17 series, 48-MHz/32-bit ARM Cortex-M0+, 32 kB flash, 8 kB SRAM, FlexIO, XFBGA-36; ki_keywords: Kinetis KL17 ARM Cortex M0+; ki_fp_filters: XFBGA*3.5x3.5mm*P0.5mm*; Footprint: Package_BGA:XFBGA-36_3.5x3.5mm_Layout6x6_P0.5mm; Datasheet: http://www.nxp.com/docs/en/data-sheet/KL17P64M48SF2.pdf; Description_: Kinetis KL17 series, 48-MHz/32-bit ARM Cortex-M0+, 32 kB flash, 8 kB SRAM, FlexIO, XFBGA-36
pins: A1 PTE0, A2 PTD7, A3 PTD4/LLWU_P14, A4 PTC7, A5 PTC5/LLWU_P9, A6 PTC4/LLWU_P8, B1 PTE1, B2 PTD6/LLWU_P15, B3 PTD5, B4 PTC6/LLWU_P10, B5 PTC3/LLWU_P7, B6 PTC2, C1 PTE17, C2 PTE16, C3 VDD, C4 VSS, C5 PTC1/LLWU_P6/RTC_CLKIN, C6 PTB1, D1 PTE18, D2 PTE19, D3 VDDA/VREFH, D4 VSSA/VREFL, D5 PTA20, D6 PTB0/LLWU_P5, E1 PTE22, E2 PTE21, E3 PTE20, E4 PTA2, E5 PTA3, E6 PTA19, F1 PTE23, F2 PTE30/VREF0, F3 PTA0, F4 PTA1, F5 PTA4, F6 PTA18

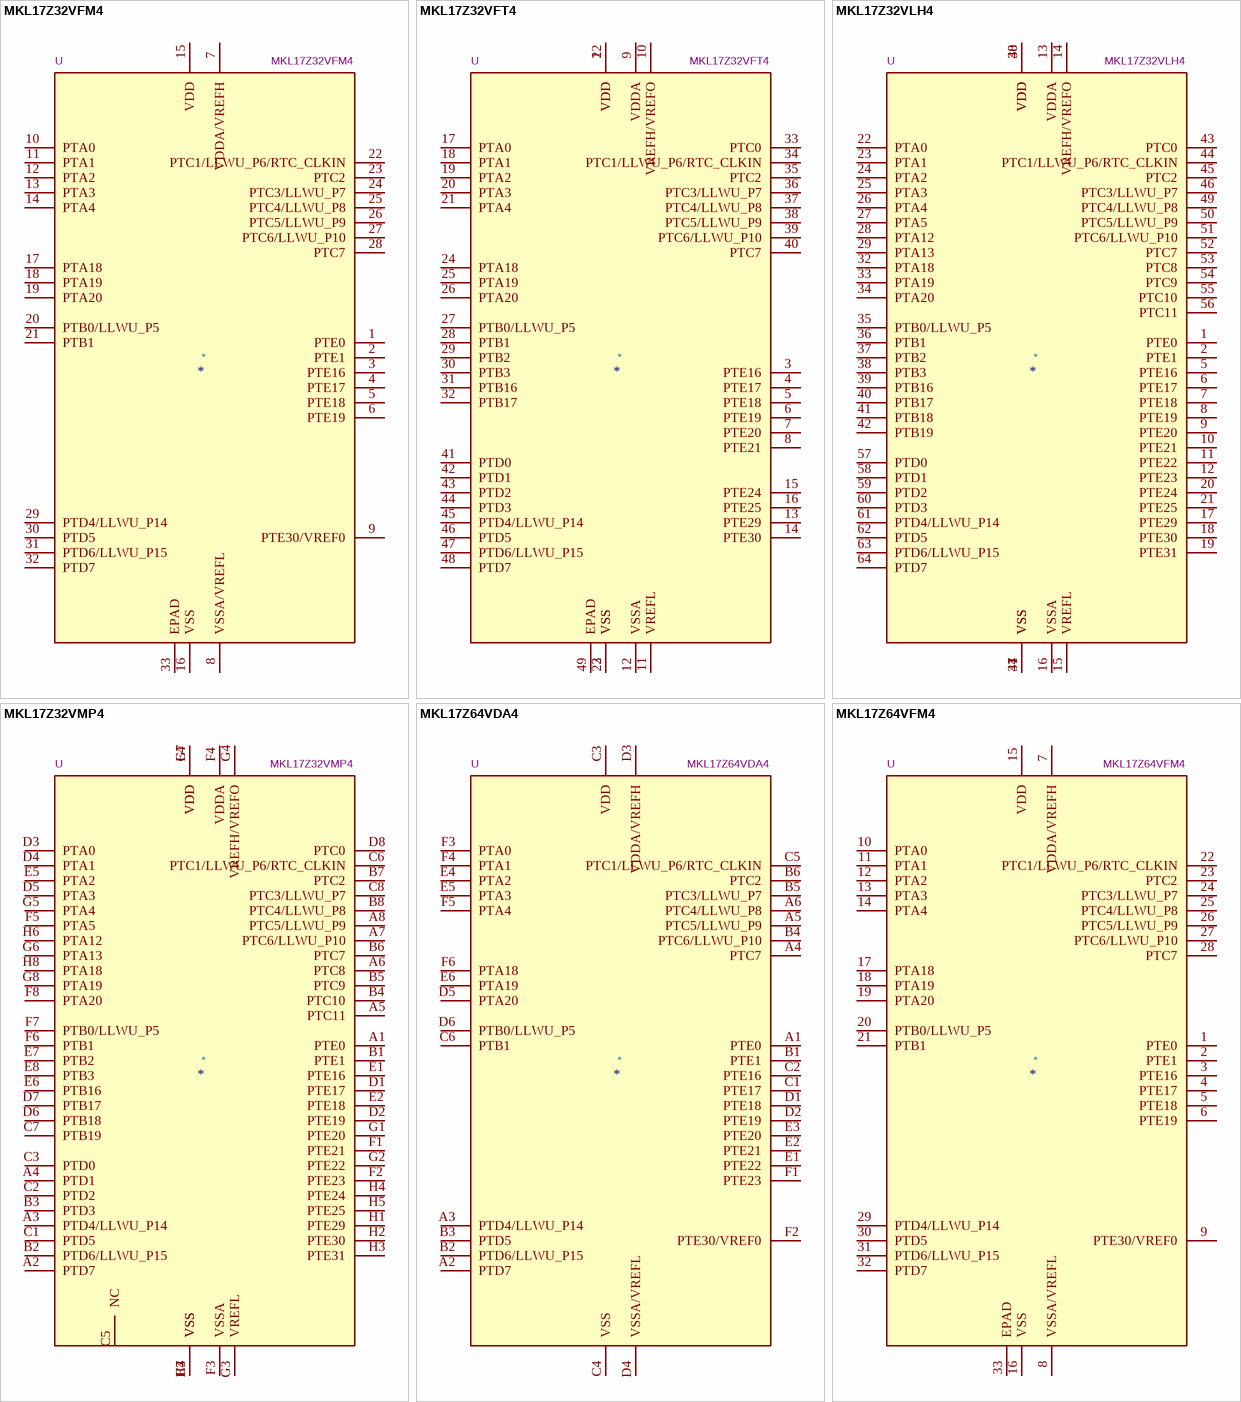
[diagram p11: symbols MKL17Z32VFM4 to MKL17Z64VFM4]

## MKL17Z32VFM4
designator *  value MKL17Z32VFM4  Reference: U
Kinetis KL17 series, 48-MHz/32-bit ARM Cortex-M0+, 32 kB flash, 8 kB SRAM, FlexIO, QFN-32; ki_keywords: Kinetis KL17 ARM Cortex M0+; ki_fp_filters: QFN*5x5mm*P0.5mm*; Footprint: Package_DFN_QFN:QFN-32-1EP_5x5mm_P0.5mm_EP3.45x3.45mm; Datasheet: http://www.nxp.com/docs/en/data-sheet/KL17P64M48SF2.pdf; Description_: Kinetis KL17 series, 48-MHz/32-bit ARM Cortex-M0+, 32 kB flash, 8 kB SRAM, FlexIO, QFN-32
pins: 1 PTE0, 2 PTE1, 3 PTE16, 4 PTE17, 5 PTE18, 6 PTE19, 7 VDDA/VREFH, 8 VSSA/VREFL, 9 PTE30/VREF0, 10 PTA0, 11 PTA1, 12 PTA2, 13 PTA3, 14 PTA4, 15 VDD, 16 VSS, 17 PTA18, 18 PTA19, 19 PTA20, 20 PTB0/LLWU_P5, 21 PTB1, 22 PTC1/LLWU_P6/RTC_CLKIN, 23 PTC2, 24 PTC3/LLWU_P7, 25 PTC4/LLWU_P8, 26 PTC5/LLWU_P9, 27 PTC6/LLWU_P10, 28 PTC7, 29 PTD4/LLWU_P14, 30 PTD5, 31 PTD6/LLWU_P15, 32 PTD7, 33 EPAD

## MKL17Z32VFT4
designator *  value MKL17Z32VFT4  Reference: U
Kinetis KL17 series, 48-MHz/32-bit ARM Cortex-M0+, 32 kB flash, 8 kB SRAM, FlexIO, QFN-48; ki_keywords: Kinetis KL17 ARM Cortex M0+; ki_fp_filters: QFN*7x7mm*P0.5mm*; Footprint: Package_DFN_QFN:QFN-48-1EP_7x7mm_P0.5mm_EP5.15x5.15mm; Datasheet: http://www.nxp.com/docs/en/data-sheet/KL17P64M48SF6.pdf; Description_: Kinetis KL17 series, 48-MHz/32-bit ARM Cortex-M0+, 32 kB flash, 8 kB SRAM, FlexIO, QFN-48
pins: 1 VDD, 2 VSS, 3 PTE16, 4 PTE17, 5 PTE18, 6 PTE19, 7 PTE20, 8 PTE21, 9 VDDA, 10 VREFH/VREFO, 11 VREFL, 12 VSSA, 13 PTE29, 14 PTE30, 15 PTE24, 16 PTE25, 17 PTA0, 18 PTA1, 19 PTA2, 20 PTA3, 21 PTA4, 22 VDD, 23 VSS, 24 PTA18, 25 PTA19, 26 PTA20, 27 PTB0/LLWU_P5, 28 PTB1, 29 PTB2, 30 PTB3, 31 PTB16, 32 PTB17, 33 PTC0, 34 PTC1/LLWU_P6/RTC_CLKIN, 35 PTC2, 36 PTC3/LLWU_P7, 37 PTC4/LLWU_P8, 38 PTC5/LLWU_P9, 39 PTC6/LLWU_P10, 40 PTC7, 41 PTD0, 42 PTD1, 43 PTD2, 44 PTD3, 45 PTD4/LLWU_P14, 46 PTD5, 47 PTD6/LLWU_P15, 48 PTD7, 49 EPAD

## MKL17Z32VLH4
designator *  value MKL17Z32VLH4  Reference: U
Kinetis KL17 series, 48-MHz/32-bit ARM Cortex-M0+, 32 kB flash, 8 kB SRAM, FlexIO, LQFP-64; ki_keywords: Kinetis KL17 ARM Cortex M0+; ki_fp_filters: LQFP*10x10mm*P0.5mm*; Footprint: Package_QFP:LQFP-64_10x10mm_P0.5mm; Datasheet: http://www.nxp.com/docs/en/data-sheet/KL17P64M48SF2.pdf; Description_: Kinetis KL17 series, 48-MHz/32-bit ARM Cortex-M0+, 32 kB flash, 8 kB SRAM, FlexIO, LQFP-64
pins: 1 PTE0, 2 PTE1, 3 VDD, 4 VSS, 5 PTE16, 6 PTE17, 7 PTE18, 8 PTE19, 9 PTE20, 10 PTE21, 11 PTE22, 12 PTE23, 13 VDDA, 14 VREFH/VREFO, 15 VREFL, 16 VSSA, 17 PTE29, 18 PTE30, 19 PTE31, 20 PTE24, 21 PTE25, 22 PTA0, 23 PTA1, 24 PTA2, 25 PTA3, 26 PTA4, 27 PTA5, 28 PTA12, 29 PTA13, 30 VDD, 31 VSS, 32 PTA18, 33 PTA19, 34 PTA20, 35 PTB0/LLWU_P5, 36 PTB1, 37 PTB2, 38 PTB3, 39 PTB16, 40 PTB17, 41 PTB18, 42 PTB19, 43 PTC0, 44 PTC1/LLWU_P6/RTC_CLKIN, 45 PTC2, 46 PTC3/LLWU_P7, 47 VSS, 48 VDD, 49 PTC4/LLWU_P8, 50 PTC5/LLWU_P9, 51 PTC6/LLWU_P10, 52 PTC7, 53 PTC8, 54 PTC9, 55 PTC10, 56 PTC11, 57 PTD0, 58 PTD1, 59 PTD2, 60 PTD3, 61 PTD4/LLWU_P14, 62 PTD5, 63 PTD6/LLWU_P15, 64 PTD7

## MKL17Z32VMP4
designator *  value MKL17Z32VMP4  Reference: U
Kinetis KL17 series, 48-MHz/32-bit ARM Cortex-M0+, 32 kB flash, 8 kB SRAM, FlexIO, MAPBGA-64; ki_keywords: Kinetis KL17 ARM Cortex M0+; ki_fp_filters: XFBGA*5.0x5.0mm*P0.5mm*; Footprint: Package_BGA:XFBGA-64_5.0x5.0mm_Layout8x8_P0.5mm; Datasheet: http://www.nxp.com/docs/en/data-sheet/KL17P64M48SF2.pdf; Description_: Kinetis KL17 series, 48-MHz/32-bit ARM Cortex-M0+, 32 kB flash, 8 kB SRAM, FlexIO, MAPBGA-64
pins: A1 PTE0, A2 PTD7, A3 PTD4/LLWU_P14, A4 PTD1, A5 PTC11, A6 PTC8, A7 PTC6/LLWU_P10, A8 PTC5/LLWU_P9, B1 PTE1, B2 PTD6/LLWU_P15, B3 PTD3, B4 PTC10, B5 PTC9, B6 PTC7, B7 PTC2, B8 PTC4/LLWU_P8, C1 PTD5, C2 PTD2, C3 PTD0, C4 VSS, C5 NC, C6 PTC1/LLWU_P6/RTC_CLKIN, C7 PTB19, C8 PTC3/LLWU_P7, D1 PTE17, D2 PTE19, D3 PTA0, D4 PTA1, D5 PTA3, D6 PTB18, D7 PTB17, D8 PTC0, E1 PTE16, E2 PTE18, E3 VSS, E4 VDD, E5 PTA2, E6 PTB16, E7 PTB2, E8 PTB3, F1 PTE21, F2 PTE23, F3 VSSA, F4 VDDA, F5 PTA5, F6 PTB1, F7 PTB0/LLWU_P5, F8 PTA20, G1 PTE20, G2 PTE22, G3 VREFL, G4 VREFH/VREFO, G5 PTA4, G6 PTA13, G7 VDD, G8 PTA19, H1 PTE29, H2 PTE30, H3 PTE31, H4 PTE24, H5 PTE25, H6 PTA12, H7 VSS, H8 PTA18

## MKL17Z64VDA4
designator *  value MKL17Z64VDA4  Reference: U
Kinetis KL17 series, 48-MHz/32-bit ARM Cortex-M0+, 64 kB flash, 16 kB SRAM, FlexIO, XFBGA-36; ki_keywords: Kinetis KL17 ARM Cortex M0+; ki_fp_filters: XFBGA*3.5x3.5mm*P0.5mm*; Footprint: Package_BGA:XFBGA-36_3.5x3.5mm_Layout6x6_P0.5mm; Datasheet: http://www.nxp.com/docs/en/data-sheet/KL17P64M48SF2.pdf; Description_: Kinetis KL17 series, 48-MHz/32-bit ARM Cortex-M0+, 64 kB flash, 16 kB SRAM, FlexIO, XFBGA-36
pins: A1 PTE0, A2 PTD7, A3 PTD4/LLWU_P14, A4 PTC7, A5 PTC5/LLWU_P9, A6 PTC4/LLWU_P8, B1 PTE1, B2 PTD6/LLWU_P15, B3 PTD5, B4 PTC6/LLWU_P10, B5 PTC3/LLWU_P7, B6 PTC2, C1 PTE17, C2 PTE16, C3 VDD, C4 VSS, C5 PTC1/LLWU_P6/RTC_CLKIN, C6 PTB1, D1 PTE18, D2 PTE19, D3 VDDA/VREFH, D4 VSSA/VREFL, D5 PTA20, D6 PTB0/LLWU_P5, E1 PTE22, E2 PTE21, E3 PTE20, E4 PTA2, E5 PTA3, E6 PTA19, F1 PTE23, F2 PTE30/VREF0, F3 PTA0, F4 PTA1, F5 PTA4, F6 PTA18

## MKL17Z64VFM4
designator *  value MKL17Z64VFM4  Reference: U
Kinetis KL17 series, 48-MHz/32-bit ARM Cortex-M0+, 64 kB flash, 16 kB SRAM, FlexIO, QFN-32; ki_keywords: Kinetis KL17 ARM Cortex M0+; ki_fp_filters: QFN*5x5mm*P0.5mm*; Footprint: Package_DFN_QFN:QFN-32-1EP_5x5mm_P0.5mm_EP3.45x3.45mm; Datasheet: http://www.nxp.com/docs/en/data-sheet/KL17P64M48SF2.pdf; Description_: Kinetis KL17 series, 48-MHz/32-bit ARM Cortex-M0+, 64 kB flash, 16 kB SRAM, FlexIO, QFN-32
pins: 1 PTE0, 2 PTE1, 3 PTE16, 4 PTE17, 5 PTE18, 6 PTE19, 7 VDDA/VREFH, 8 VSSA/VREFL, 9 PTE30/VREF0, 10 PTA0, 11 PTA1, 12 PTA2, 13 PTA3, 14 PTA4, 15 VDD, 16 VSS, 17 PTA18, 18 PTA19, 19 PTA20, 20 PTB0/LLWU_P5, 21 PTB1, 22 PTC1/LLWU_P6/RTC_CLKIN, 23 PTC2, 24 PTC3/LLWU_P7, 25 PTC4/LLWU_P8, 26 PTC5/LLWU_P9, 27 PTC6/LLWU_P10, 28 PTC7, 29 PTD4/LLWU_P14, 30 PTD5, 31 PTD6/LLWU_P15, 32 PTD7, 33 EPAD

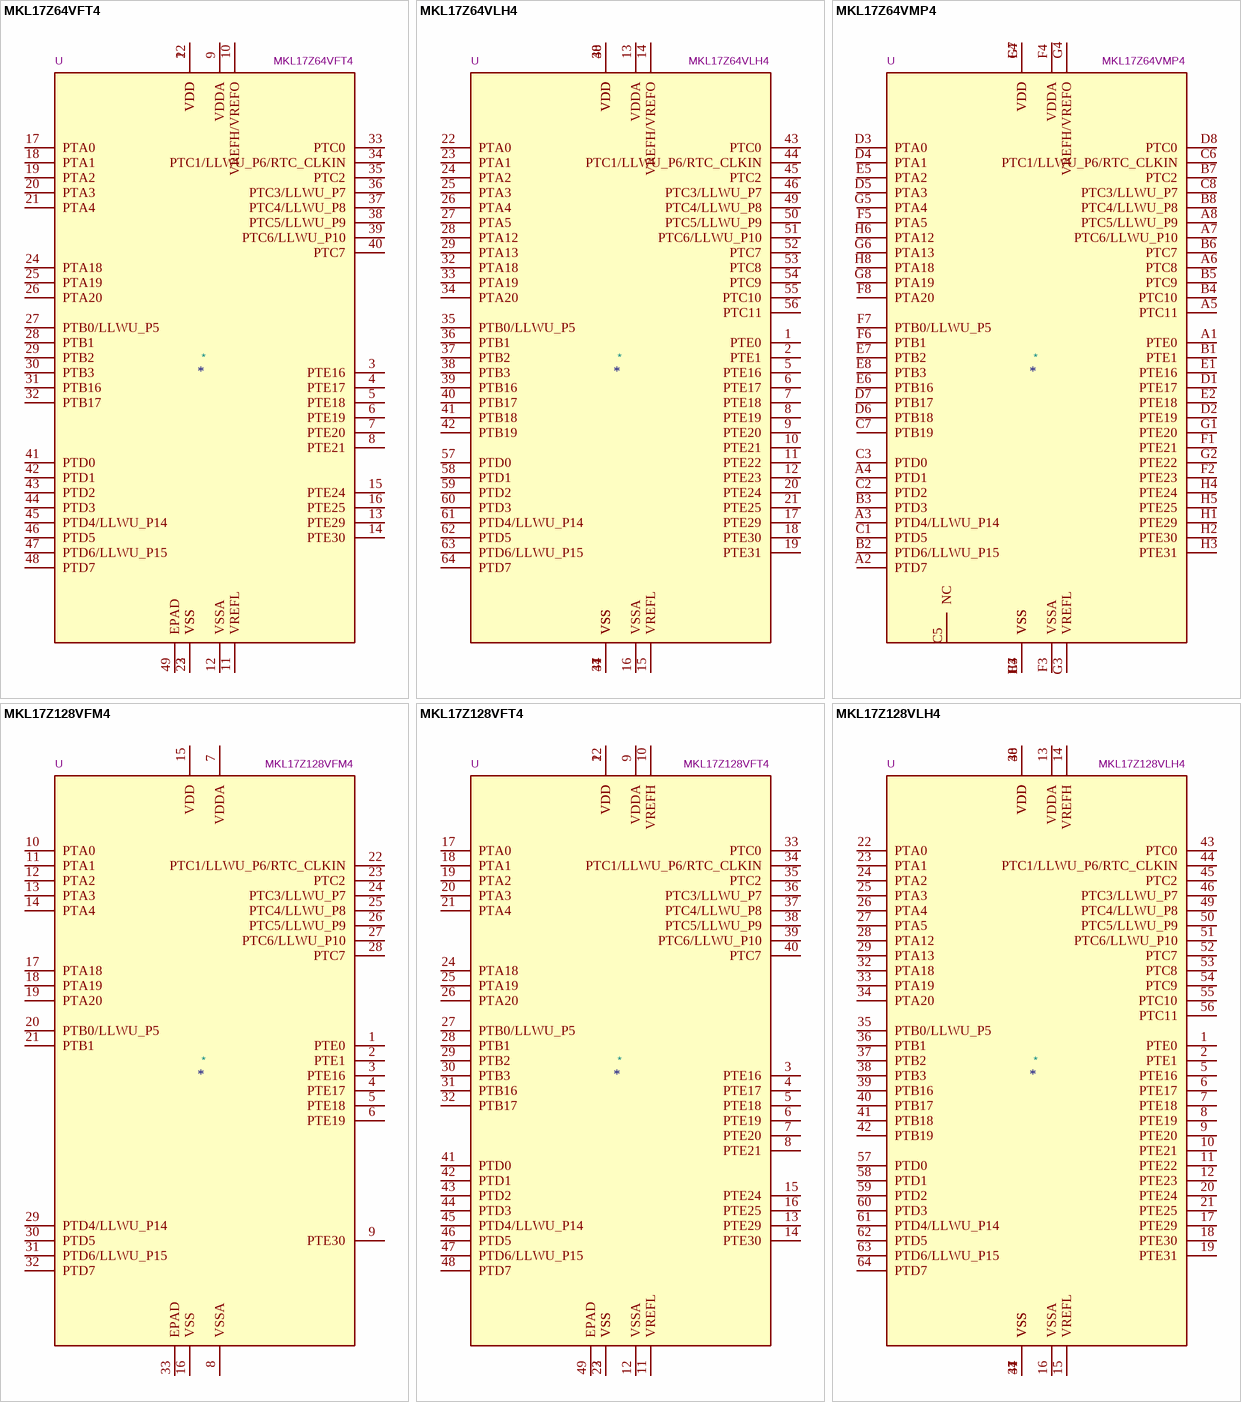
[diagram p12: symbols MKL17Z64VFT4 to MKL17Z128VLH4]

## MKL17Z64VFT4
designator *  value MKL17Z64VFT4  Reference: U
Kinetis KL17 series, 48-MHz/32-bit ARM Cortex-M0+, 64 kB flash, 16 kB SRAM, FlexIO, QFN-48; ki_keywords: Kinetis KL17 ARM Cortex M0+; ki_fp_filters: QFN*7x7mm*P0.5mm*; Footprint: Package_DFN_QFN:QFN-48-1EP_7x7mm_P0.5mm_EP5.15x5.15mm; Datasheet: http://www.nxp.com/docs/en/data-sheet/KL17P64M48SF6.pdf; Description_: Kinetis KL17 series, 48-MHz/32-bit ARM Cortex-M0+, 64 kB flash, 16 kB SRAM, FlexIO, QFN-48
pins: 1 VDD, 2 VSS, 3 PTE16, 4 PTE17, 5 PTE18, 6 PTE19, 7 PTE20, 8 PTE21, 9 VDDA, 10 VREFH/VREFO, 11 VREFL, 12 VSSA, 13 PTE29, 14 PTE30, 15 PTE24, 16 PTE25, 17 PTA0, 18 PTA1, 19 PTA2, 20 PTA3, 21 PTA4, 22 VDD, 23 VSS, 24 PTA18, 25 PTA19, 26 PTA20, 27 PTB0/LLWU_P5, 28 PTB1, 29 PTB2, 30 PTB3, 31 PTB16, 32 PTB17, 33 PTC0, 34 PTC1/LLWU_P6/RTC_CLKIN, 35 PTC2, 36 PTC3/LLWU_P7, 37 PTC4/LLWU_P8, 38 PTC5/LLWU_P9, 39 PTC6/LLWU_P10, 40 PTC7, 41 PTD0, 42 PTD1, 43 PTD2, 44 PTD3, 45 PTD4/LLWU_P14, 46 PTD5, 47 PTD6/LLWU_P15, 48 PTD7, 49 EPAD

## MKL17Z64VLH4
designator *  value MKL17Z64VLH4  Reference: U
Kinetis KL17 series, 48-MHz/32-bit ARM Cortex-M0+, 64 kB flash, 16 kB SRAM, FlexIO, LQFP-64; ki_keywords: Kinetis KL17 ARM Cortex M0+; ki_fp_filters: LQFP*10x10mm*P0.5mm*; Footprint: Package_QFP:LQFP-64_10x10mm_P0.5mm; Datasheet: http://www.nxp.com/docs/en/data-sheet/KL17P64M48SF2.pdf; Description_: Kinetis KL17 series, 48-MHz/32-bit ARM Cortex-M0+, 64 kB flash, 16 kB SRAM, FlexIO, LQFP-64
pins: 1 PTE0, 2 PTE1, 3 VDD, 4 VSS, 5 PTE16, 6 PTE17, 7 PTE18, 8 PTE19, 9 PTE20, 10 PTE21, 11 PTE22, 12 PTE23, 13 VDDA, 14 VREFH/VREFO, 15 VREFL, 16 VSSA, 17 PTE29, 18 PTE30, 19 PTE31, 20 PTE24, 21 PTE25, 22 PTA0, 23 PTA1, 24 PTA2, 25 PTA3, 26 PTA4, 27 PTA5, 28 PTA12, 29 PTA13, 30 VDD, 31 VSS, 32 PTA18, 33 PTA19, 34 PTA20, 35 PTB0/LLWU_P5, 36 PTB1, 37 PTB2, 38 PTB3, 39 PTB16, 40 PTB17, 41 PTB18, 42 PTB19, 43 PTC0, 44 PTC1/LLWU_P6/RTC_CLKIN, 45 PTC2, 46 PTC3/LLWU_P7, 47 VSS, 48 VDD, 49 PTC4/LLWU_P8, 50 PTC5/LLWU_P9, 51 PTC6/LLWU_P10, 52 PTC7, 53 PTC8, 54 PTC9, 55 PTC10, 56 PTC11, 57 PTD0, 58 PTD1, 59 PTD2, 60 PTD3, 61 PTD4/LLWU_P14, 62 PTD5, 63 PTD6/LLWU_P15, 64 PTD7

## MKL17Z64VMP4
designator *  value MKL17Z64VMP4  Reference: U
Kinetis KL17 series, 48-MHz/32-bit ARM Cortex-M0+, 64 kB flash, 16 kB SRAM, FlexIO, MAPBGA-64; ki_keywords: Kinetis KL17 ARM Cortex M0+; ki_fp_filters: XFBGA*5.0x5.0mm*P0.5mm*; Footprint: Package_BGA:XFBGA-64_5.0x5.0mm_Layout8x8_P0.5mm; Datasheet: http://www.nxp.com/docs/en/data-sheet/KL17P64M48SF2.pdf; Description_: Kinetis KL17 series, 48-MHz/32-bit ARM Cortex-M0+, 64 kB flash, 16 kB SRAM, FlexIO, MAPBGA-64
pins: A1 PTE0, A2 PTD7, A3 PTD4/LLWU_P14, A4 PTD1, A5 PTC11, A6 PTC8, A7 PTC6/LLWU_P10, A8 PTC5/LLWU_P9, B1 PTE1, B2 PTD6/LLWU_P15, B3 PTD3, B4 PTC10, B5 PTC9, B6 PTC7, B7 PTC2, B8 PTC4/LLWU_P8, C1 PTD5, C2 PTD2, C3 PTD0, C4 VSS, C5 NC, C6 PTC1/LLWU_P6/RTC_CLKIN, C7 PTB19, C8 PTC3/LLWU_P7, D1 PTE17, D2 PTE19, D3 PTA0, D4 PTA1, D5 PTA3, D6 PTB18, D7 PTB17, D8 PTC0, E1 PTE16, E2 PTE18, E3 VSS, E4 VDD, E5 PTA2, E6 PTB16, E7 PTB2, E8 PTB3, F1 PTE21, F2 PTE23, F3 VSSA, F4 VDDA, F5 PTA5, F6 PTB1, F7 PTB0/LLWU_P5, F8 PTA20, G1 PTE20, G2 PTE22, G3 VREFL, G4 VREFH/VREFO, G5 PTA4, G6 PTA13, G7 VDD, G8 PTA19, H1 PTE29, H2 PTE30, H3 PTE31, H4 PTE24, H5 PTE25, H6 PTA12, H7 VSS, H8 PTA18

## MKL17Z128VFM4
designator *  value MKL17Z128VFM4  Reference: U
Kinetis KL17 series, 48-MHz/32-bit ARM Cortex-M0+, 128 kB flash, 32 kB SRAM, FlexIO, QFN-32; ki_keywords: Kinetis KL17 ARM Cortex M0+; ki_fp_filters: QFN*5x5mm*P0.5mm*; Footprint: Package_DFN_QFN:QFN-32-1EP_5x5mm_P0.5mm_EP3.45x3.45mm; Datasheet: http://www.nxp.com/docs/en/data-sheet/KL17P64M48SF6.pdf; Description_: Kinetis KL17 series, 48-MHz/32-bit ARM Cortex-M0+, 128 kB flash, 32 kB SRAM, FlexIO, QFN-32
pins: 1 PTE0, 2 PTE1, 3 PTE16, 4 PTE17, 5 PTE18, 6 PTE19, 7 VDDA, 8 VSSA, 9 PTE30, 10 PTA0, 11 PTA1, 12 PTA2, 13 PTA3, 14 PTA4, 15 VDD, 16 VSS, 17 PTA18, 18 PTA19, 19 PTA20, 20 PTB0/LLWU_P5, 21 PTB1, 22 PTC1/LLWU_P6/RTC_CLKIN, 23 PTC2, 24 PTC3/LLWU_P7, 25 PTC4/LLWU_P8, 26 PTC5/LLWU_P9, 27 PTC6/LLWU_P10, 28 PTC7, 29 PTD4/LLWU_P14, 30 PTD5, 31 PTD6/LLWU_P15, 32 PTD7, 33 EPAD

## MKL17Z128VFT4
designator *  value MKL17Z128VFT4  Reference: U
Kinetis KL17 series, 48-MHz/32-bit ARM Cortex-M0+, 128 kB flash, 32 kB SRAM, FlexIO, QFN-48; ki_keywords: Kinetis KL17 ARM Cortex M0+; ki_fp_filters: QFN*7x7mm*P0.5mm*; Footprint: Package_DFN_QFN:QFN-48-1EP_7x7mm_P0.5mm_EP5.15x5.15mm; Datasheet: http://www.nxp.com/docs/en/data-sheet/KL17P64M48SF6.pdf; Description_: Kinetis KL17 series, 48-MHz/32-bit ARM Cortex-M0+, 128 kB flash, 32 kB SRAM, FlexIO, QFN-48
pins: 1 VDD, 2 VSS, 3 PTE16, 4 PTE17, 5 PTE18, 6 PTE19, 7 PTE20, 8 PTE21, 9 VDDA, 10 VREFH, 11 VREFL, 12 VSSA, 13 PTE29, 14 PTE30, 15 PTE24, 16 PTE25, 17 PTA0, 18 PTA1, 19 PTA2, 20 PTA3, 21 PTA4, 22 VDD, 23 VSS, 24 PTA18, 25 PTA19, 26 PTA20, 27 PTB0/LLWU_P5, 28 PTB1, 29 PTB2, 30 PTB3, 31 PTB16, 32 PTB17, 33 PTC0, 34 PTC1/LLWU_P6/RTC_CLKIN, 35 PTC2, 36 PTC3/LLWU_P7, 37 PTC4/LLWU_P8, 38 PTC5/LLWU_P9, 39 PTC6/LLWU_P10, 40 PTC7, 41 PTD0, 42 PTD1, 43 PTD2, 44 PTD3, 45 PTD4/LLWU_P14, 46 PTD5, 47 PTD6/LLWU_P15, 48 PTD7, 49 EPAD

## MKL17Z128VLH4
designator *  value MKL17Z128VLH4  Reference: U
Kinetis KL17 series, 48-MHz/32-bit ARM Cortex-M0+, 128 kB flash, 32 kB SRAM, FlexIO, LQFP-64; ki_keywords: Kinetis KL17 ARM Cortex M0+; ki_fp_filters: LQFP*10x10mm*P0.5mm*; Footprint: Package_QFP:LQFP-64_10x10mm_P0.5mm; Datasheet: http://www.nxp.com/docs/en/data-sheet/KL17P64M48SF6.pdf; Description_: Kinetis KL17 series, 48-MHz/32-bit ARM Cortex-M0+, 128 kB flash, 32 kB SRAM, FlexIO, LQFP-64
pins: 1 PTE0, 2 PTE1, 3 VDD, 4 VSS, 5 PTE16, 6 PTE17, 7 PTE18, 8 PTE19, 9 PTE20, 10 PTE21, 11 PTE22, 12 PTE23, 13 VDDA, 14 VREFH, 15 VREFL, 16 VSSA, 17 PTE29, 18 PTE30, 19 PTE31, 20 PTE24, 21 PTE25, 22 PTA0, 23 PTA1, 24 PTA2, 25 PTA3, 26 PTA4, 27 PTA5, 28 PTA12, 29 PTA13, 30 VDD, 31 VSS, 32 PTA18, 33 PTA19, 34 PTA20, 35 PTB0/LLWU_P5, 36 PTB1, 37 PTB2, 38 PTB3, 39 PTB16, 40 PTB17, 41 PTB18, 42 PTB19, 43 PTC0, 44 PTC1/LLWU_P6/RTC_CLKIN, 45 PTC2, 46 PTC3/LLWU_P7, 47 VSS, 48 VDD, 49 PTC4/LLWU_P8, 50 PTC5/LLWU_P9, 51 PTC6/LLWU_P10, 52 PTC7, 53 PTC8, 54 PTC9, 55 PTC10, 56 PTC11, 57 PTD0, 58 PTD1, 59 PTD2, 60 PTD3, 61 PTD4/LLWU_P14, 62 PTD5, 63 PTD6/LLWU_P15, 64 PTD7

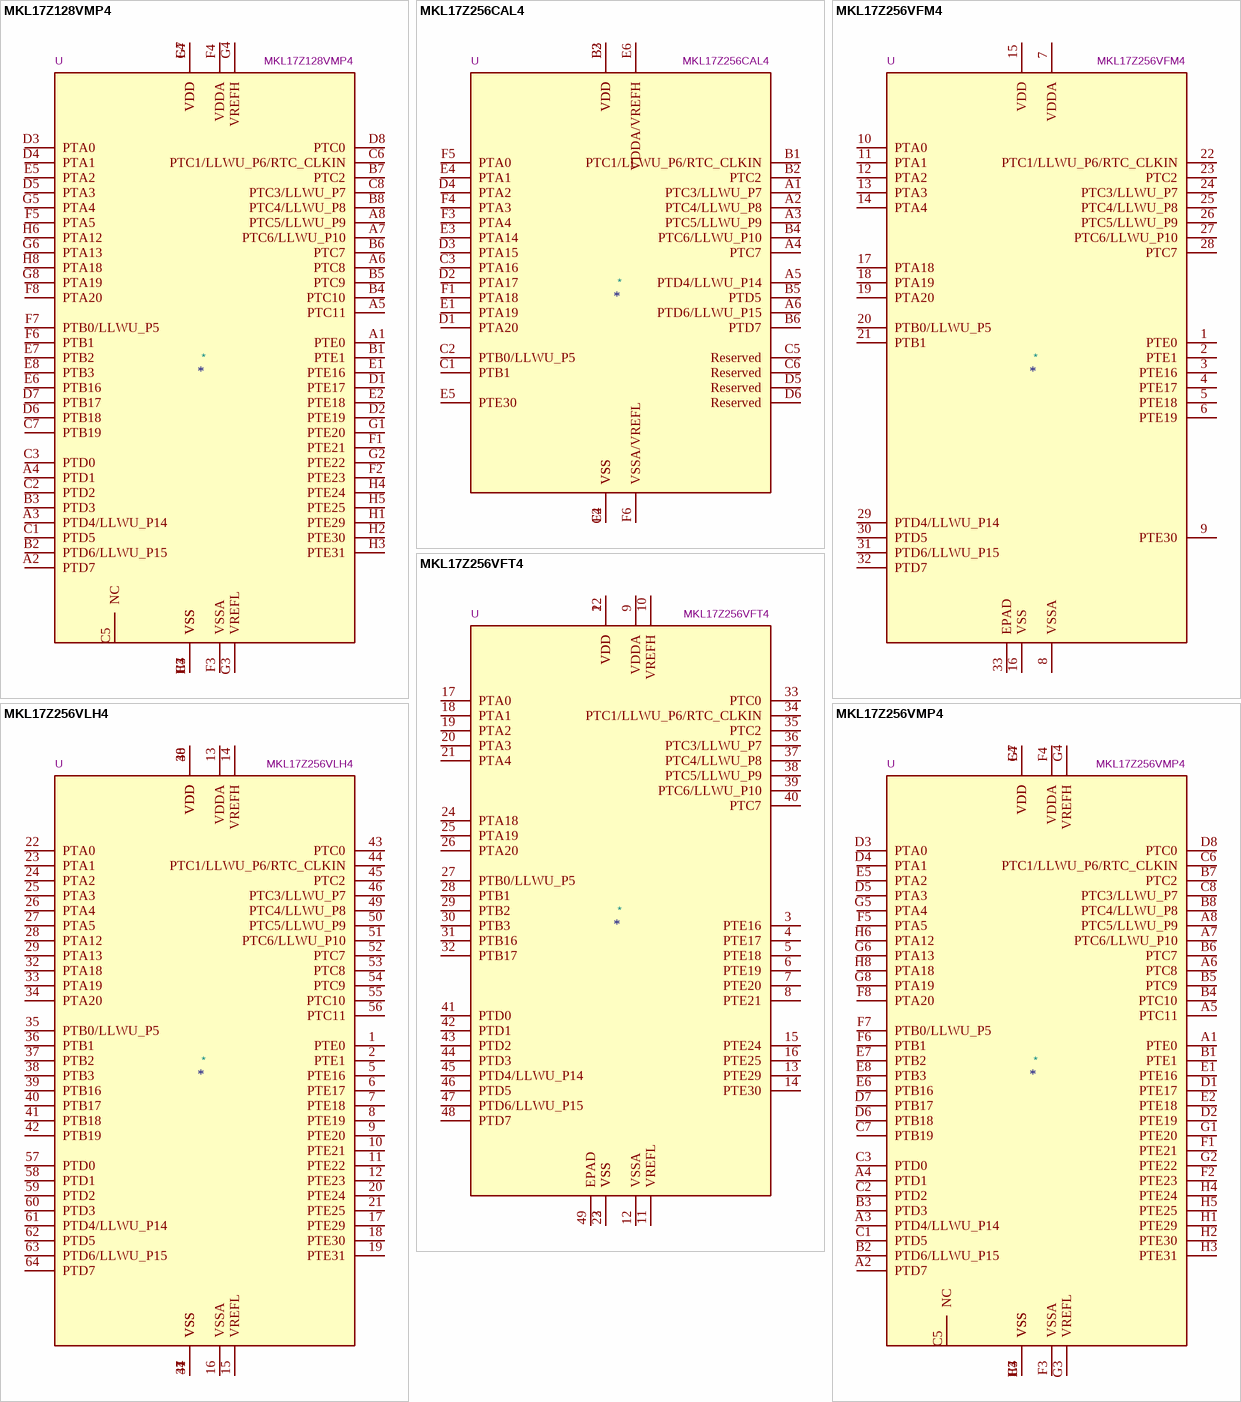
[diagram p13: symbols MKL17Z128VMP4 to MKL17Z256VMP4]

## MKL17Z128VMP4
designator *  value MKL17Z128VMP4  Reference: U
Kinetis KL17 series, 48-MHz/32-bit ARM Cortex-M0+, 128 kB flash, 32 kB SRAM, FlexIO, MAPBGA-64; ki_keywords: Kinetis KL17 ARM Cortex M0+; ki_fp_filters: XFBGA*5.0x5.0mm*P0.5mm*; Footprint: Package_BGA:XFBGA-64_5.0x5.0mm_Layout8x8_P0.5mm; Datasheet: http://www.nxp.com/docs/en/data-sheet/KL17P64M48SF6.pdf; Description_: Kinetis KL17 series, 48-MHz/32-bit ARM Cortex-M0+, 128 kB flash, 32 kB SRAM, FlexIO, MAPBGA-64
pins: A1 PTE0, A2 PTD7, A3 PTD4/LLWU_P14, A4 PTD1, A5 PTC11, A6 PTC8, A7 PTC6/LLWU_P10, A8 PTC5/LLWU_P9, B1 PTE1, B2 PTD6/LLWU_P15, B3 PTD3, B4 PTC10, B5 PTC9, B6 PTC7, B7 PTC2, B8 PTC4/LLWU_P8, C1 PTD5, C2 PTD2, C3 PTD0, C4 VSS, C5 NC, C6 PTC1/LLWU_P6/RTC_CLKIN, C7 PTB19, C8 PTC3/LLWU_P7, D1 PTE17, D2 PTE19, D3 PTA0, D4 PTA1, D5 PTA3, D6 PTB18, D7 PTB17, D8 PTC0, E1 PTE16, E2 PTE18, E3 VSS, E4 VDD, E5 PTA2, E6 PTB16, E7 PTB2, E8 PTB3, F1 PTE21, F2 PTE23, F3 VSSA, F4 VDDA, F5 PTA5, F6 PTB1, F7 PTB0/LLWU_P5, F8 PTA20, G1 PTE20, G2 PTE22, G3 VREFL, G4 VREFH, G5 PTA4, G6 PTA13, G7 VDD, G8 PTA19, H1 PTE29, H2 PTE30, H3 PTE31, H4 PTE24, H5 PTE25, H6 PTA12, H7 VSS, H8 PTA18

## MKL17Z256CAL4
designator *  value MKL17Z256CAL4  Reference: U
Kinetis KL17 series, 48-MHz/32-bit ARM Cortex-M0+, 256 kB flash, 32 kB SRAM, FlexIO, WLCSP-36; ki_keywords: Kinetis KL17 ARM Cortex M0+; ki_fp_filters: WLCSP*2.82x2.67mm*P0.4mm*; Footprint: Package_CSP:WLCSP-36_2.82x2.67mm_Layout6x6_P0.4mm; Datasheet: http://www.nxp.com/docs/en/data-sheet/KL17P64M48SF6.pdf; Description_: Kinetis KL17 series, 48-MHz/32-bit ARM Cortex-M0+, 256 kB flash, 32 kB SRAM, FlexIO, WLCSP-36
pins: A1 PTC3/LLWU_P7, A2 PTC4/LLWU_P8, A3 PTC5/LLWU_P9, A4 PTC7, A5 PTD4/LLWU_P14, A6 PTD6/LLWU_P15, B1 PTC1/LLWU_P6/RTC_CLKIN, B2 PTC2, B3 VDD, B4 PTC6/LLWU_P10, B5 PTD5, B6 PTD7, C1 PTB1, C2 PTB0/LLWU_P5, C3 PTA16, C4 VSS, C5 Reserved, C6 Reserved, D1 PTA20, D2 PTA17, D3 PTA15, D4 PTA2, D5 Reserved, D6 Reserved, E1 PTA19, E2 VDD, E3 PTA14, E4 PTA1, E5 PTE30, E6 VDDA/VREFH, F1 PTA18, F2 VSS, F3 PTA4, F4 PTA3, F5 PTA0, F6 VSSA/VREFL

## MKL17Z256VFM4
designator *  value MKL17Z256VFM4  Reference: U
Kinetis KL17 series, 48-MHz/32-bit ARM Cortex-M0+, 256 kB flash, 32 kB SRAM, FlexIO, QFN-32; ki_keywords: Kinetis KL17 ARM Cortex M0+; ki_fp_filters: QFN*5x5mm*P0.5mm*; Footprint: Package_DFN_QFN:QFN-32-1EP_5x5mm_P0.5mm_EP3.45x3.45mm; Datasheet: http://www.nxp.com/docs/en/data-sheet/KL17P64M48SF6.pdf; Description_: Kinetis KL17 series, 48-MHz/32-bit ARM Cortex-M0+, 256 kB flash, 32 kB SRAM, FlexIO, QFN-32
pins: 1 PTE0, 2 PTE1, 3 PTE16, 4 PTE17, 5 PTE18, 6 PTE19, 7 VDDA, 8 VSSA, 9 PTE30, 10 PTA0, 11 PTA1, 12 PTA2, 13 PTA3, 14 PTA4, 15 VDD, 16 VSS, 17 PTA18, 18 PTA19, 19 PTA20, 20 PTB0/LLWU_P5, 21 PTB1, 22 PTC1/LLWU_P6/RTC_CLKIN, 23 PTC2, 24 PTC3/LLWU_P7, 25 PTC4/LLWU_P8, 26 PTC5/LLWU_P9, 27 PTC6/LLWU_P10, 28 PTC7, 29 PTD4/LLWU_P14, 30 PTD5, 31 PTD6/LLWU_P15, 32 PTD7, 33 EPAD

## MKL17Z256VFT4
designator *  value MKL17Z256VFT4  Reference: U
Kinetis KL17 series, 48-MHz/32-bit ARM Cortex-M0+, 256 kB flash, 32 kB SRAM, FlexIO, QFN-48; ki_keywords: Kinetis KL17 ARM Cortex M0+; ki_fp_filters: QFN*7x7mm*P0.5mm*; Footprint: Package_DFN_QFN:QFN-48-1EP_7x7mm_P0.5mm_EP5.15x5.15mm; Datasheet: http://www.nxp.com/docs/en/data-sheet/KL17P64M48SF6.pdf; Description_: Kinetis KL17 series, 48-MHz/32-bit ARM Cortex-M0+, 256 kB flash, 32 kB SRAM, FlexIO, QFN-48
pins: 1 VDD, 2 VSS, 3 PTE16, 4 PTE17, 5 PTE18, 6 PTE19, 7 PTE20, 8 PTE21, 9 VDDA, 10 VREFH, 11 VREFL, 12 VSSA, 13 PTE29, 14 PTE30, 15 PTE24, 16 PTE25, 17 PTA0, 18 PTA1, 19 PTA2, 20 PTA3, 21 PTA4, 22 VDD, 23 VSS, 24 PTA18, 25 PTA19, 26 PTA20, 27 PTB0/LLWU_P5, 28 PTB1, 29 PTB2, 30 PTB3, 31 PTB16, 32 PTB17, 33 PTC0, 34 PTC1/LLWU_P6/RTC_CLKIN, 35 PTC2, 36 PTC3/LLWU_P7, 37 PTC4/LLWU_P8, 38 PTC5/LLWU_P9, 39 PTC6/LLWU_P10, 40 PTC7, 41 PTD0, 42 PTD1, 43 PTD2, 44 PTD3, 45 PTD4/LLWU_P14, 46 PTD5, 47 PTD6/LLWU_P15, 48 PTD7, 49 EPAD

## MKL17Z256VLH4
designator *  value MKL17Z256VLH4  Reference: U
Kinetis KL17 series, 48-MHz/32-bit ARM Cortex-M0+, 256 kB flash, 32 kB SRAM, FlexIO, LQFP-64; ki_keywords: Kinetis KL17 ARM Cortex M0+; ki_fp_filters: LQFP*10x10mm*P0.5mm*; Footprint: Package_QFP:LQFP-64_10x10mm_P0.5mm; Datasheet: http://www.nxp.com/docs/en/data-sheet/KL17P64M48SF6.pdf; Description_: Kinetis KL17 series, 48-MHz/32-bit ARM Cortex-M0+, 256 kB flash, 32 kB SRAM, FlexIO, LQFP-64
pins: 1 PTE0, 2 PTE1, 3 VDD, 4 VSS, 5 PTE16, 6 PTE17, 7 PTE18, 8 PTE19, 9 PTE20, 10 PTE21, 11 PTE22, 12 PTE23, 13 VDDA, 14 VREFH, 15 VREFL, 16 VSSA, 17 PTE29, 18 PTE30, 19 PTE31, 20 PTE24, 21 PTE25, 22 PTA0, 23 PTA1, 24 PTA2, 25 PTA3, 26 PTA4, 27 PTA5, 28 PTA12, 29 PTA13, 30 VDD, 31 VSS, 32 PTA18, 33 PTA19, 34 PTA20, 35 PTB0/LLWU_P5, 36 PTB1, 37 PTB2, 38 PTB3, 39 PTB16, 40 PTB17, 41 PTB18, 42 PTB19, 43 PTC0, 44 PTC1/LLWU_P6/RTC_CLKIN, 45 PTC2, 46 PTC3/LLWU_P7, 47 VSS, 48 VDD, 49 PTC4/LLWU_P8, 50 PTC5/LLWU_P9, 51 PTC6/LLWU_P10, 52 PTC7, 53 PTC8, 54 PTC9, 55 PTC10, 56 PTC11, 57 PTD0, 58 PTD1, 59 PTD2, 60 PTD3, 61 PTD4/LLWU_P14, 62 PTD5, 63 PTD6/LLWU_P15, 64 PTD7

## MKL17Z256VMP4
designator *  value MKL17Z256VMP4  Reference: U
Kinetis KL17 series, 48-MHz/32-bit ARM Cortex-M0+, 256 kB flash, 32 kB SRAM, FlexIO, MAPBGA-64; ki_keywords: Kinetis KL17 ARM Cortex M0+; ki_fp_filters: XFBGA*5.0x5.0mm*P0.5mm*; Footprint: Package_BGA:XFBGA-64_5.0x5.0mm_Layout8x8_P0.5mm; Datasheet: http://www.nxp.com/docs/en/data-sheet/KL17P64M48SF6.pdf; Description_: Kinetis KL17 series, 48-MHz/32-bit ARM Cortex-M0+, 256 kB flash, 32 kB SRAM, FlexIO, MAPBGA-64
pins: A1 PTE0, A2 PTD7, A3 PTD4/LLWU_P14, A4 PTD1, A5 PTC11, A6 PTC8, A7 PTC6/LLWU_P10, A8 PTC5/LLWU_P9, B1 PTE1, B2 PTD6/LLWU_P15, B3 PTD3, B4 PTC10, B5 PTC9, B6 PTC7, B7 PTC2, B8 PTC4/LLWU_P8, C1 PTD5, C2 PTD2, C3 PTD0, C4 VSS, C5 NC, C6 PTC1/LLWU_P6/RTC_CLKIN, C7 PTB19, C8 PTC3/LLWU_P7, D1 PTE17, D2 PTE19, D3 PTA0, D4 PTA1, D5 PTA3, D6 PTB18, D7 PTB17, D8 PTC0, E1 PTE16, E2 PTE18, E3 VSS, E4 VDD, E5 PTA2, E6 PTB16, E7 PTB2, E8 PTB3, F1 PTE21, F2 PTE23, F3 VSSA, F4 VDDA, F5 PTA5, F6 PTB1, F7 PTB0/LLWU_P5, F8 PTA20, G1 PTE20, G2 PTE22, G3 VREFL, G4 VREFH, G5 PTA4, G6 PTA13, G7 VDD, G8 PTA19, H1 PTE29, H2 PTE30, H3 PTE31, H4 PTE24, H5 PTE25, H6 PTA12, H7 VSS, H8 PTA18

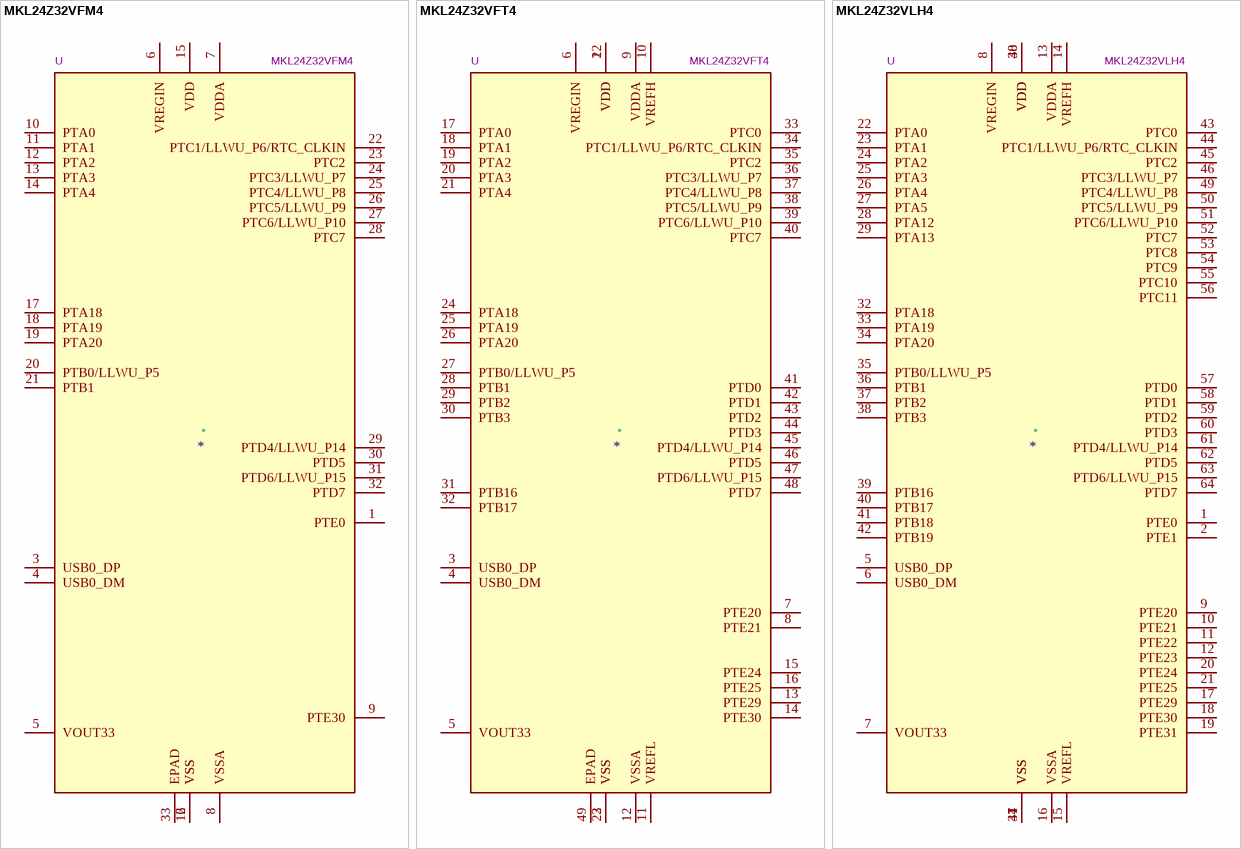
[diagram p14: symbols MKL24Z32VFM4 to MKL24Z32VLH4]

## MKL24Z32VFM4
designator *  value MKL24Z32VFM4  Reference: U
Kinetis KL24 series, 48-MHz/32-bit ARM Cortex-M0+, 32 kB flash, 4 kB SRAM, USB FS Device/OTG, QFN-32; ki_keywords: Kinetis KL24 ARM Cortex M0+; ki_fp_filters: QFN*5x5mm*P0.5mm*; Footprint: Package_DFN_QFN:QFN-32-1EP_5x5mm_P0.5mm_EP3.45x3.45mm; Datasheet: http://www.nxp.com/docs/en/data-sheet/KL24P80M48SF0.pdf; Description_: Kinetis KL24 series, 48-MHz/32-bit ARM Cortex-M0+, 32 kB flash, 4 kB SRAM, USB FS Device/OTG, QFN-32
pins: 1 PTE0, 2 VSS, 3 USB0_DP, 4 USB0_DM, 5 VOUT33, 6 VREGIN, 7 VDDA, 8 VSSA, 9 PTE30, 10 PTA0, 11 PTA1, 12 PTA2, 13 PTA3, 14 PTA4, 15 VDD, 16 VSS, 17 PTA18, 18 PTA19, 19 PTA20, 20 PTB0/LLWU_P5, 21 PTB1, 22 PTC1/LLWU_P6/RTC_CLKIN, 23 PTC2, 24 PTC3/LLWU_P7, 25 PTC4/LLWU_P8, 26 PTC5/LLWU_P9, 27 PTC6/LLWU_P10, 28 PTC7, 29 PTD4/LLWU_P14, 30 PTD5, 31 PTD6/LLWU_P15, 32 PTD7, 33 EPAD

## MKL24Z32VFT4
designator *  value MKL24Z32VFT4  Reference: U
Kinetis KL24 series, 48-MHz/32-bit ARM Cortex-M0+, 32 kB flash, 4 kB SRAM, USB FS Device/OTG, QFN-48; ki_keywords: Kinetis KL24 ARM Cortex M0+; ki_fp_filters: QFN*7x7mm*P0.5mm*; Footprint: Package_DFN_QFN:QFN-48-1EP_7x7mm_P0.5mm_EP5.15x5.15mm; Datasheet: http://www.nxp.com/docs/en/data-sheet/KL24P80M48SF0.pdf; Description_: Kinetis KL24 series, 48-MHz/32-bit ARM Cortex-M0+, 32 kB flash, 4 kB SRAM, USB FS Device/OTG, QFN-48
pins: 1 VDD, 2 VSS, 3 USB0_DP, 4 USB0_DM, 5 VOUT33, 6 VREGIN, 7 PTE20, 8 PTE21, 9 VDDA, 10 VREFH, 11 VREFL, 12 VSSA, 13 PTE29, 14 PTE30, 15 PTE24, 16 PTE25, 17 PTA0, 18 PTA1, 19 PTA2, 20 PTA3, 21 PTA4, 22 VDD, 23 VSS, 24 PTA18, 25 PTA19, 26 PTA20, 27 PTB0/LLWU_P5, 28 PTB1, 29 PTB2, 30 PTB3, 31 PTB16, 32 PTB17, 33 PTC0, 34 PTC1/LLWU_P6/RTC_CLKIN, 35 PTC2, 36 PTC3/LLWU_P7, 37 PTC4/LLWU_P8, 38 PTC5/LLWU_P9, 39 PTC6/LLWU_P10, 40 PTC7, 41 PTD0, 42 PTD1, 43 PTD2, 44 PTD3, 45 PTD4/LLWU_P14, 46 PTD5, 47 PTD6/LLWU_P15, 48 PTD7, 49 EPAD

## MKL24Z32VLH4
designator *  value MKL24Z32VLH4  Reference: U
Kinetis KL24 series, 48-MHz/32-bit ARM Cortex-M0+, 32 kB flash, 4 kB SRAM, USB FS Device/OTG, LQFP-64; ki_keywords: Kinetis KL24 ARM Cortex M0+; ki_fp_filters: LQFP*10x10mm*P0.5mm*; Footprint: Package_QFP:LQFP-64_10x10mm_P0.5mm; Datasheet: http://www.nxp.com/docs/en/data-sheet/KL24P80M48SF0.pdf; Description_: Kinetis KL24 series, 48-MHz/32-bit ARM Cortex-M0+, 32 kB flash, 4 kB SRAM, USB FS Device/OTG, LQFP-64
pins: 1 PTE0, 2 PTE1, 3 VDD, 4 VSS, 5 USB0_DP, 6 USB0_DM, 7 VOUT33, 8 VREGIN, 9 PTE20, 10 PTE21, 11 PTE22, 12 PTE23, 13 VDDA, 14 VREFH, 15 VREFL, 16 VSSA, 17 PTE29, 18 PTE30, 19 PTE31, 20 PTE24, 21 PTE25, 22 PTA0, 23 PTA1, 24 PTA2, 25 PTA3, 26 PTA4, 27 PTA5, 28 PTA12, 29 PTA13, 30 VDD, 31 VSS, 32 PTA18, 33 PTA19, 34 PTA20, 35 PTB0/LLWU_P5, 36 PTB1, 37 PTB2, 38 PTB3, 39 PTB16, 40 PTB17, 41 PTB18, 42 PTB19, 43 PTC0, 44 PTC1/LLWU_P6/RTC_CLKIN, 45 PTC2, 46 PTC3/LLWU_P7, 47 VSS, 48 VDD, 49 PTC4/LLWU_P8, 50 PTC5/LLWU_P9, 51 PTC6/LLWU_P10, 52 PTC7, 53 PTC8, 54 PTC9, 55 PTC10, 56 PTC11, 57 PTD0, 58 PTD1, 59 PTD2, 60 PTD3, 61 PTD4/LLWU_P14, 62 PTD5, 63 PTD6/LLWU_P15, 64 PTD7

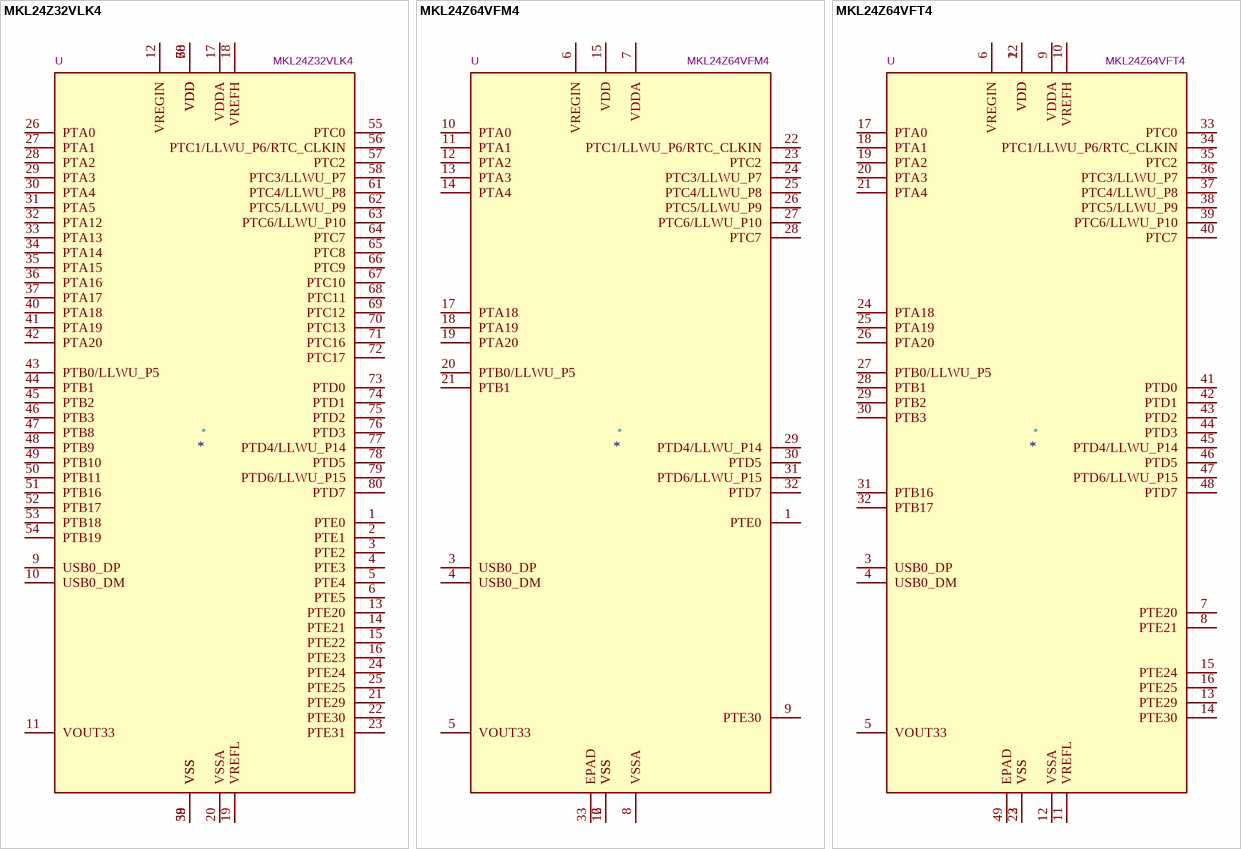
[diagram p15: symbols MKL24Z32VLK4 to MKL24Z64VFT4]

## MKL24Z32VLK4
designator *  value MKL24Z32VLK4  Reference: U
Kinetis KL24 series, 48-MHz/32-bit ARM Cortex-M0+, 32 kB flash, 4 kB SRAM, USB FS Device/OTG, LQFP-80; ki_keywords: Kinetis KL24 ARM Cortex M0+; ki_fp_filters: LQFP*12x12mm*P0.5mm*; Footprint: Package_QFP:LQFP-80_12x12mm_P0.5mm; Datasheet: http://www.nxp.com/docs/en/data-sheet/KL24P80M48SF0.pdf; Description_: Kinetis KL24 series, 48-MHz/32-bit ARM Cortex-M0+, 32 kB flash, 4 kB SRAM, USB FS Device/OTG, LQFP-80
pins: 1 PTE0, 2 PTE1, 3 PTE2, 4 PTE3, 5 PTE4, 6 PTE5, 7 VDD, 8 VSS, 9 USB0_DP, 10 USB0_DM, 11 VOUT33, 12 VREGIN, 13 PTE20, 14 PTE21, 15 PTE22, 16 PTE23, 17 VDDA, 18 VREFH, 19 VREFL, 20 VSSA, 21 PTE29, 22 PTE30, 23 PTE31, 24 PTE24, 25 PTE25, 26 PTA0, 27 PTA1, 28 PTA2, 29 PTA3, 30 PTA4, 31 PTA5, 32 PTA12, 33 PTA13, 34 PTA14, 35 PTA15, 36 PTA16, 37 PTA17, 38 VDD, 39 VSS, 40 PTA18, 41 PTA19, 42 PTA20, 43 PTB0/LLWU_P5, 44 PTB1, 45 PTB2, 46 PTB3, 47 PTB8, 48 PTB9, 49 PTB10, 50 PTB11, 51 PTB16, 52 PTB17, 53 PTB18, 54 PTB19, 55 PTC0, 56 PTC1/LLWU_P6/RTC_CLKIN, 57 PTC2, 58 PTC3/LLWU_P7, 59 VSS, 60 VDD, 61 PTC4/LLWU_P8, 62 PTC5/LLWU_P9, 63 PTC6/LLWU_P10, 64 PTC7, 65 PTC8, 66 PTC9, 67 PTC10, 68 PTC11, 69 PTC12, 70 PTC13, 71 PTC16, 72 PTC17, 73 PTD0, 74 PTD1, 75 PTD2, 76 PTD3, 77 PTD4/LLWU_P14, 78 PTD5, 79 PTD6/LLWU_P15, 80 PTD7

## MKL24Z64VFM4
designator *  value MKL24Z64VFM4  Reference: U
Kinetis KL24 series, 48-MHz/32-bit ARM Cortex-M0+, 64 kB flash, 8 kB SRAM, USB FS Device/OTG, QFN-32; ki_keywords: Kinetis KL24 ARM Cortex M0+; ki_fp_filters: QFN*5x5mm*P0.5mm*; Footprint: Package_DFN_QFN:QFN-32-1EP_5x5mm_P0.5mm_EP3.45x3.45mm; Datasheet: http://www.nxp.com/docs/en/data-sheet/KL24P80M48SF0.pdf; Description_: Kinetis KL24 series, 48-MHz/32-bit ARM Cortex-M0+, 64 kB flash, 8 kB SRAM, USB FS Device/OTG, QFN-32
pins: 1 PTE0, 2 VSS, 3 USB0_DP, 4 USB0_DM, 5 VOUT33, 6 VREGIN, 7 VDDA, 8 VSSA, 9 PTE30, 10 PTA0, 11 PTA1, 12 PTA2, 13 PTA3, 14 PTA4, 15 VDD, 16 VSS, 17 PTA18, 18 PTA19, 19 PTA20, 20 PTB0/LLWU_P5, 21 PTB1, 22 PTC1/LLWU_P6/RTC_CLKIN, 23 PTC2, 24 PTC3/LLWU_P7, 25 PTC4/LLWU_P8, 26 PTC5/LLWU_P9, 27 PTC6/LLWU_P10, 28 PTC7, 29 PTD4/LLWU_P14, 30 PTD5, 31 PTD6/LLWU_P15, 32 PTD7, 33 EPAD

## MKL24Z64VFT4
designator *  value MKL24Z64VFT4  Reference: U
Kinetis KL24 series, 48-MHz/32-bit ARM Cortex-M0+, 64 kB flash, 8 kB SRAM, USB FS Device/OTG, QFN-48; ki_keywords: Kinetis KL24 ARM Cortex M0+; ki_fp_filters: QFN*7x7mm*P0.5mm*; Footprint: Package_DFN_QFN:QFN-48-1EP_7x7mm_P0.5mm_EP5.15x5.15mm; Datasheet: http://www.nxp.com/docs/en/data-sheet/KL24P80M48SF0.pdf; Description_: Kinetis KL24 series, 48-MHz/32-bit ARM Cortex-M0+, 64 kB flash, 8 kB SRAM, USB FS Device/OTG, QFN-48
pins: 1 VDD, 2 VSS, 3 USB0_DP, 4 USB0_DM, 5 VOUT33, 6 VREGIN, 7 PTE20, 8 PTE21, 9 VDDA, 10 VREFH, 11 VREFL, 12 VSSA, 13 PTE29, 14 PTE30, 15 PTE24, 16 PTE25, 17 PTA0, 18 PTA1, 19 PTA2, 20 PTA3, 21 PTA4, 22 VDD, 23 VSS, 24 PTA18, 25 PTA19, 26 PTA20, 27 PTB0/LLWU_P5, 28 PTB1, 29 PTB2, 30 PTB3, 31 PTB16, 32 PTB17, 33 PTC0, 34 PTC1/LLWU_P6/RTC_CLKIN, 35 PTC2, 36 PTC3/LLWU_P7, 37 PTC4/LLWU_P8, 38 PTC5/LLWU_P9, 39 PTC6/LLWU_P10, 40 PTC7, 41 PTD0, 42 PTD1, 43 PTD2, 44 PTD3, 45 PTD4/LLWU_P14, 46 PTD5, 47 PTD6/LLWU_P15, 48 PTD7, 49 EPAD

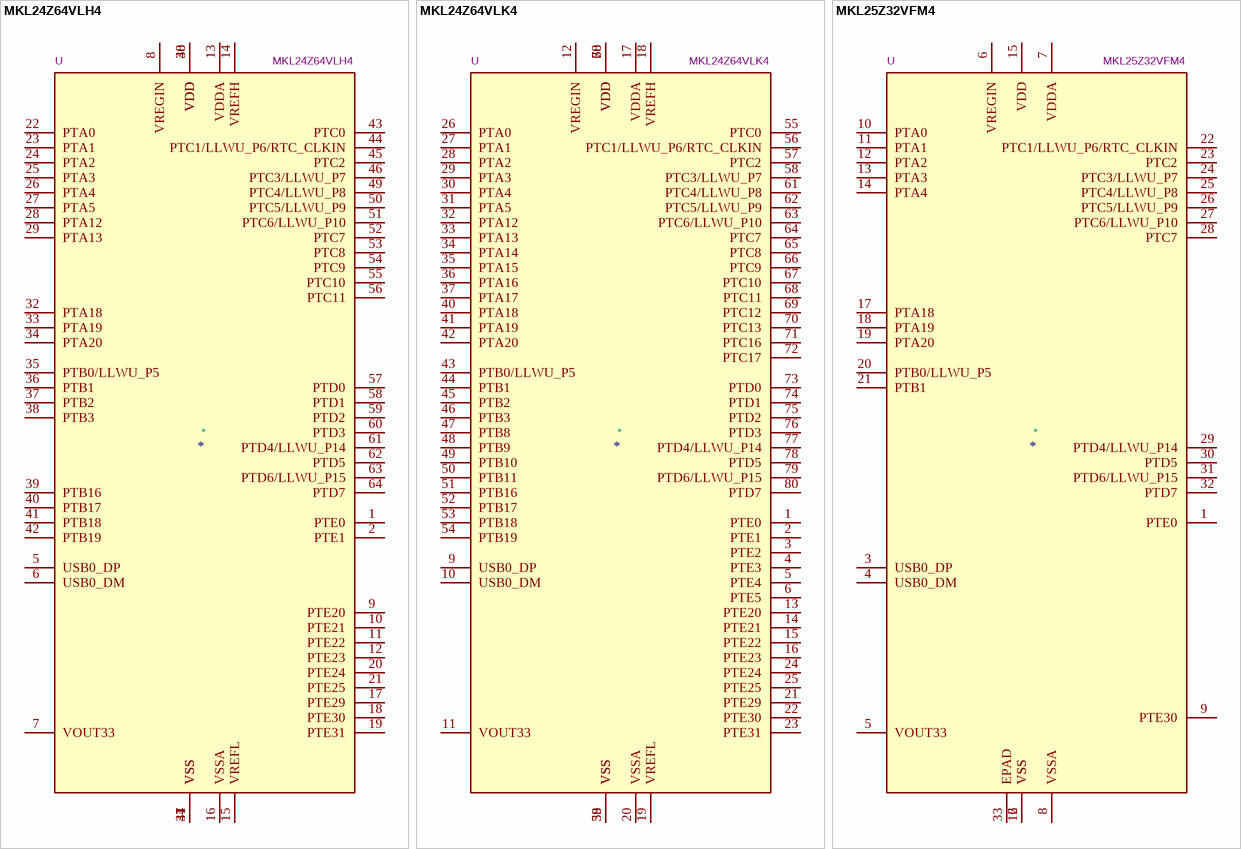
[diagram p16: symbols MKL24Z64VLH4 to MKL25Z32VFM4]

## MKL24Z64VLH4
designator *  value MKL24Z64VLH4  Reference: U
Kinetis KL24 series, 48-MHz/32-bit ARM Cortex-M0+, 64 kB flash, 8 kB SRAM, USB FS Device/OTG, LQFP-64; ki_keywords: Kinetis KL24 ARM Cortex M0+; ki_fp_filters: LQFP*10x10mm*P0.5mm*; Footprint: Package_QFP:LQFP-64_10x10mm_P0.5mm; Datasheet: http://www.nxp.com/docs/en/data-sheet/KL24P80M48SF0.pdf; Description_: Kinetis KL24 series, 48-MHz/32-bit ARM Cortex-M0+, 64 kB flash, 8 kB SRAM, USB FS Device/OTG, LQFP-64
pins: 1 PTE0, 2 PTE1, 3 VDD, 4 VSS, 5 USB0_DP, 6 USB0_DM, 7 VOUT33, 8 VREGIN, 9 PTE20, 10 PTE21, 11 PTE22, 12 PTE23, 13 VDDA, 14 VREFH, 15 VREFL, 16 VSSA, 17 PTE29, 18 PTE30, 19 PTE31, 20 PTE24, 21 PTE25, 22 PTA0, 23 PTA1, 24 PTA2, 25 PTA3, 26 PTA4, 27 PTA5, 28 PTA12, 29 PTA13, 30 VDD, 31 VSS, 32 PTA18, 33 PTA19, 34 PTA20, 35 PTB0/LLWU_P5, 36 PTB1, 37 PTB2, 38 PTB3, 39 PTB16, 40 PTB17, 41 PTB18, 42 PTB19, 43 PTC0, 44 PTC1/LLWU_P6/RTC_CLKIN, 45 PTC2, 46 PTC3/LLWU_P7, 47 VSS, 48 VDD, 49 PTC4/LLWU_P8, 50 PTC5/LLWU_P9, 51 PTC6/LLWU_P10, 52 PTC7, 53 PTC8, 54 PTC9, 55 PTC10, 56 PTC11, 57 PTD0, 58 PTD1, 59 PTD2, 60 PTD3, 61 PTD4/LLWU_P14, 62 PTD5, 63 PTD6/LLWU_P15, 64 PTD7

## MKL24Z64VLK4
designator *  value MKL24Z64VLK4  Reference: U
Kinetis KL24 series, 48-MHz/32-bit ARM Cortex-M0+, 64 kB flash, 8 kB SRAM, USB FS Device/OTG, LQFP-80; ki_keywords: Kinetis KL24 ARM Cortex M0+; ki_fp_filters: LQFP*12x12mm*P0.5mm*; Footprint: Package_QFP:LQFP-80_12x12mm_P0.5mm; Datasheet: http://www.nxp.com/docs/en/data-sheet/KL24P80M48SF0.pdf; Description_: Kinetis KL24 series, 48-MHz/32-bit ARM Cortex-M0+, 64 kB flash, 8 kB SRAM, USB FS Device/OTG, LQFP-80
pins: 1 PTE0, 2 PTE1, 3 PTE2, 4 PTE3, 5 PTE4, 6 PTE5, 7 VDD, 8 VSS, 9 USB0_DP, 10 USB0_DM, 11 VOUT33, 12 VREGIN, 13 PTE20, 14 PTE21, 15 PTE22, 16 PTE23, 17 VDDA, 18 VREFH, 19 VREFL, 20 VSSA, 21 PTE29, 22 PTE30, 23 PTE31, 24 PTE24, 25 PTE25, 26 PTA0, 27 PTA1, 28 PTA2, 29 PTA3, 30 PTA4, 31 PTA5, 32 PTA12, 33 PTA13, 34 PTA14, 35 PTA15, 36 PTA16, 37 PTA17, 38 VDD, 39 VSS, 40 PTA18, 41 PTA19, 42 PTA20, 43 PTB0/LLWU_P5, 44 PTB1, 45 PTB2, 46 PTB3, 47 PTB8, 48 PTB9, 49 PTB10, 50 PTB11, 51 PTB16, 52 PTB17, 53 PTB18, 54 PTB19, 55 PTC0, 56 PTC1/LLWU_P6/RTC_CLKIN, 57 PTC2, 58 PTC3/LLWU_P7, 59 VSS, 60 VDD, 61 PTC4/LLWU_P8, 62 PTC5/LLWU_P9, 63 PTC6/LLWU_P10, 64 PTC7, 65 PTC8, 66 PTC9, 67 PTC10, 68 PTC11, 69 PTC12, 70 PTC13, 71 PTC16, 72 PTC17, 73 PTD0, 74 PTD1, 75 PTD2, 76 PTD3, 77 PTD4/LLWU_P14, 78 PTD5, 79 PTD6/LLWU_P15, 80 PTD7

## MKL25Z32VFM4
designator *  value MKL25Z32VFM4  Reference: U
Kinetis KL25 series, 48-MHz/32-bit ARM Cortex-M0+, 32 kB flash, 4 kB SRAM, USB FS Device/OTG, QFN-32; ki_keywords: Kinetis KL25 ARM Cortex M0+; ki_fp_filters: QFN*5x5mm*P0.5mm*; Footprint: Package_DFN_QFN:QFN-32-1EP_5x5mm_P0.5mm_EP3.45x3.45mm; Datasheet: http://www.nxp.com/docs/en/data-sheet/KL25P80M48SF0.pdf; Description_: Kinetis KL25 series, 48-MHz/32-bit ARM Cortex-M0+, 32 kB flash, 4 kB SRAM, USB FS Device/OTG, QFN-32
pins: 1 PTE0, 2 VSS, 3 USB0_DP, 4 USB0_DM, 5 VOUT33, 6 VREGIN, 7 VDDA, 8 VSSA, 9 PTE30, 10 PTA0, 11 PTA1, 12 PTA2, 13 PTA3, 14 PTA4, 15 VDD, 16 VSS, 17 PTA18, 18 PTA19, 19 PTA20, 20 PTB0/LLWU_P5, 21 PTB1, 22 PTC1/LLWU_P6/RTC_CLKIN, 23 PTC2, 24 PTC3/LLWU_P7, 25 PTC4/LLWU_P8, 26 PTC5/LLWU_P9, 27 PTC6/LLWU_P10, 28 PTC7, 29 PTD4/LLWU_P14, 30 PTD5, 31 PTD6/LLWU_P15, 32 PTD7, 33 EPAD

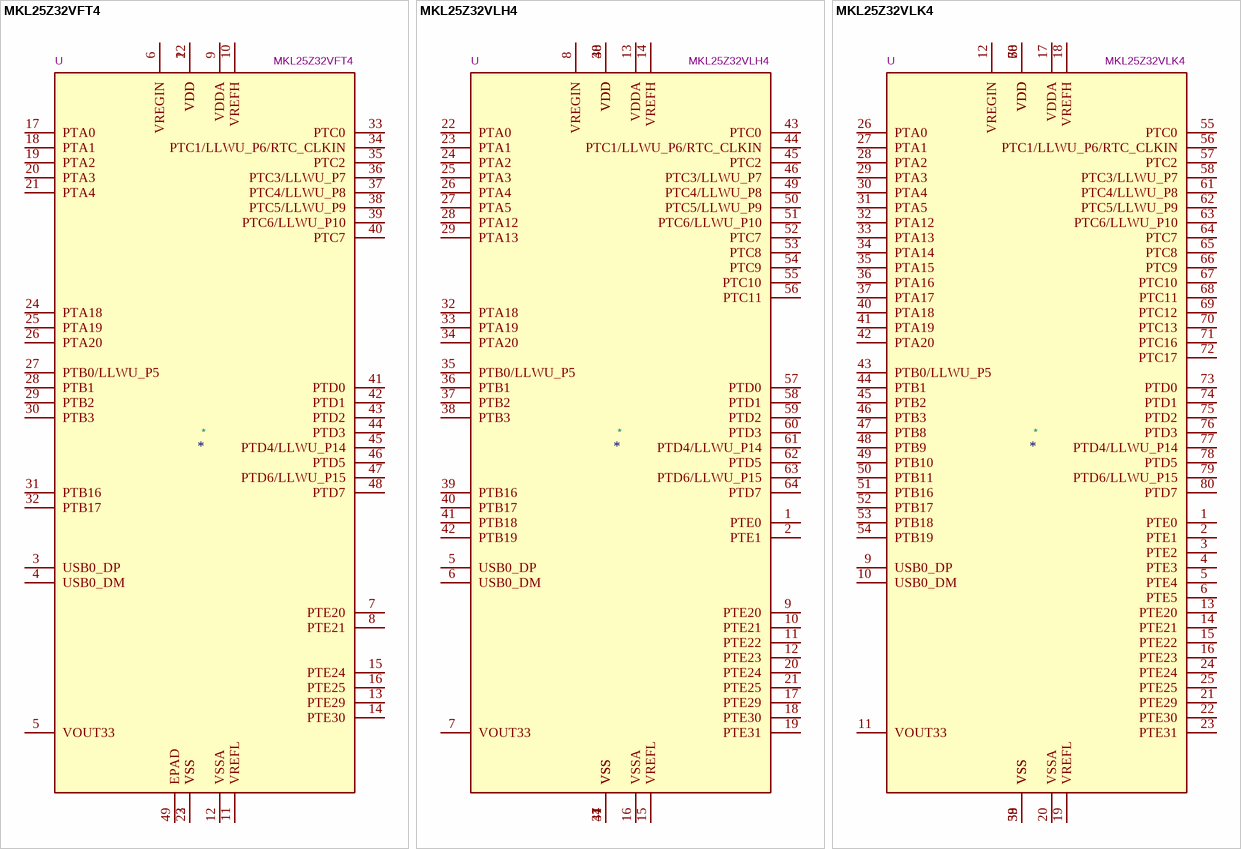
[diagram p17: symbols MKL25Z32VFT4 to MKL25Z32VLK4]

## MKL25Z32VFT4
designator *  value MKL25Z32VFT4  Reference: U
Kinetis KL25 series, 48-MHz/32-bit ARM Cortex-M0+, 32 kB flash, 4 kB SRAM, USB FS Device/OTG, QFN-48; ki_keywords: Kinetis KL25 ARM Cortex M0+; ki_fp_filters: QFN*7x7mm*P0.5mm*; Footprint: Package_DFN_QFN:QFN-48-1EP_7x7mm_P0.5mm_EP5.15x5.15mm; Datasheet: http://www.nxp.com/docs/en/data-sheet/KL25P80M48SF0.pdf; Description_: Kinetis KL25 series, 48-MHz/32-bit ARM Cortex-M0+, 32 kB flash, 4 kB SRAM, USB FS Device/OTG, QFN-48
pins: 1 VDD, 2 VSS, 3 USB0_DP, 4 USB0_DM, 5 VOUT33, 6 VREGIN, 7 PTE20, 8 PTE21, 9 VDDA, 10 VREFH, 11 VREFL, 12 VSSA, 13 PTE29, 14 PTE30, 15 PTE24, 16 PTE25, 17 PTA0, 18 PTA1, 19 PTA2, 20 PTA3, 21 PTA4, 22 VDD, 23 VSS, 24 PTA18, 25 PTA19, 26 PTA20, 27 PTB0/LLWU_P5, 28 PTB1, 29 PTB2, 30 PTB3, 31 PTB16, 32 PTB17, 33 PTC0, 34 PTC1/LLWU_P6/RTC_CLKIN, 35 PTC2, 36 PTC3/LLWU_P7, 37 PTC4/LLWU_P8, 38 PTC5/LLWU_P9, 39 PTC6/LLWU_P10, 40 PTC7, 41 PTD0, 42 PTD1, 43 PTD2, 44 PTD3, 45 PTD4/LLWU_P14, 46 PTD5, 47 PTD6/LLWU_P15, 48 PTD7, 49 EPAD